# Altium schematic symbol library SparkFun-Connectors.SCHLIB: 462 symbols (part 12 of 13)
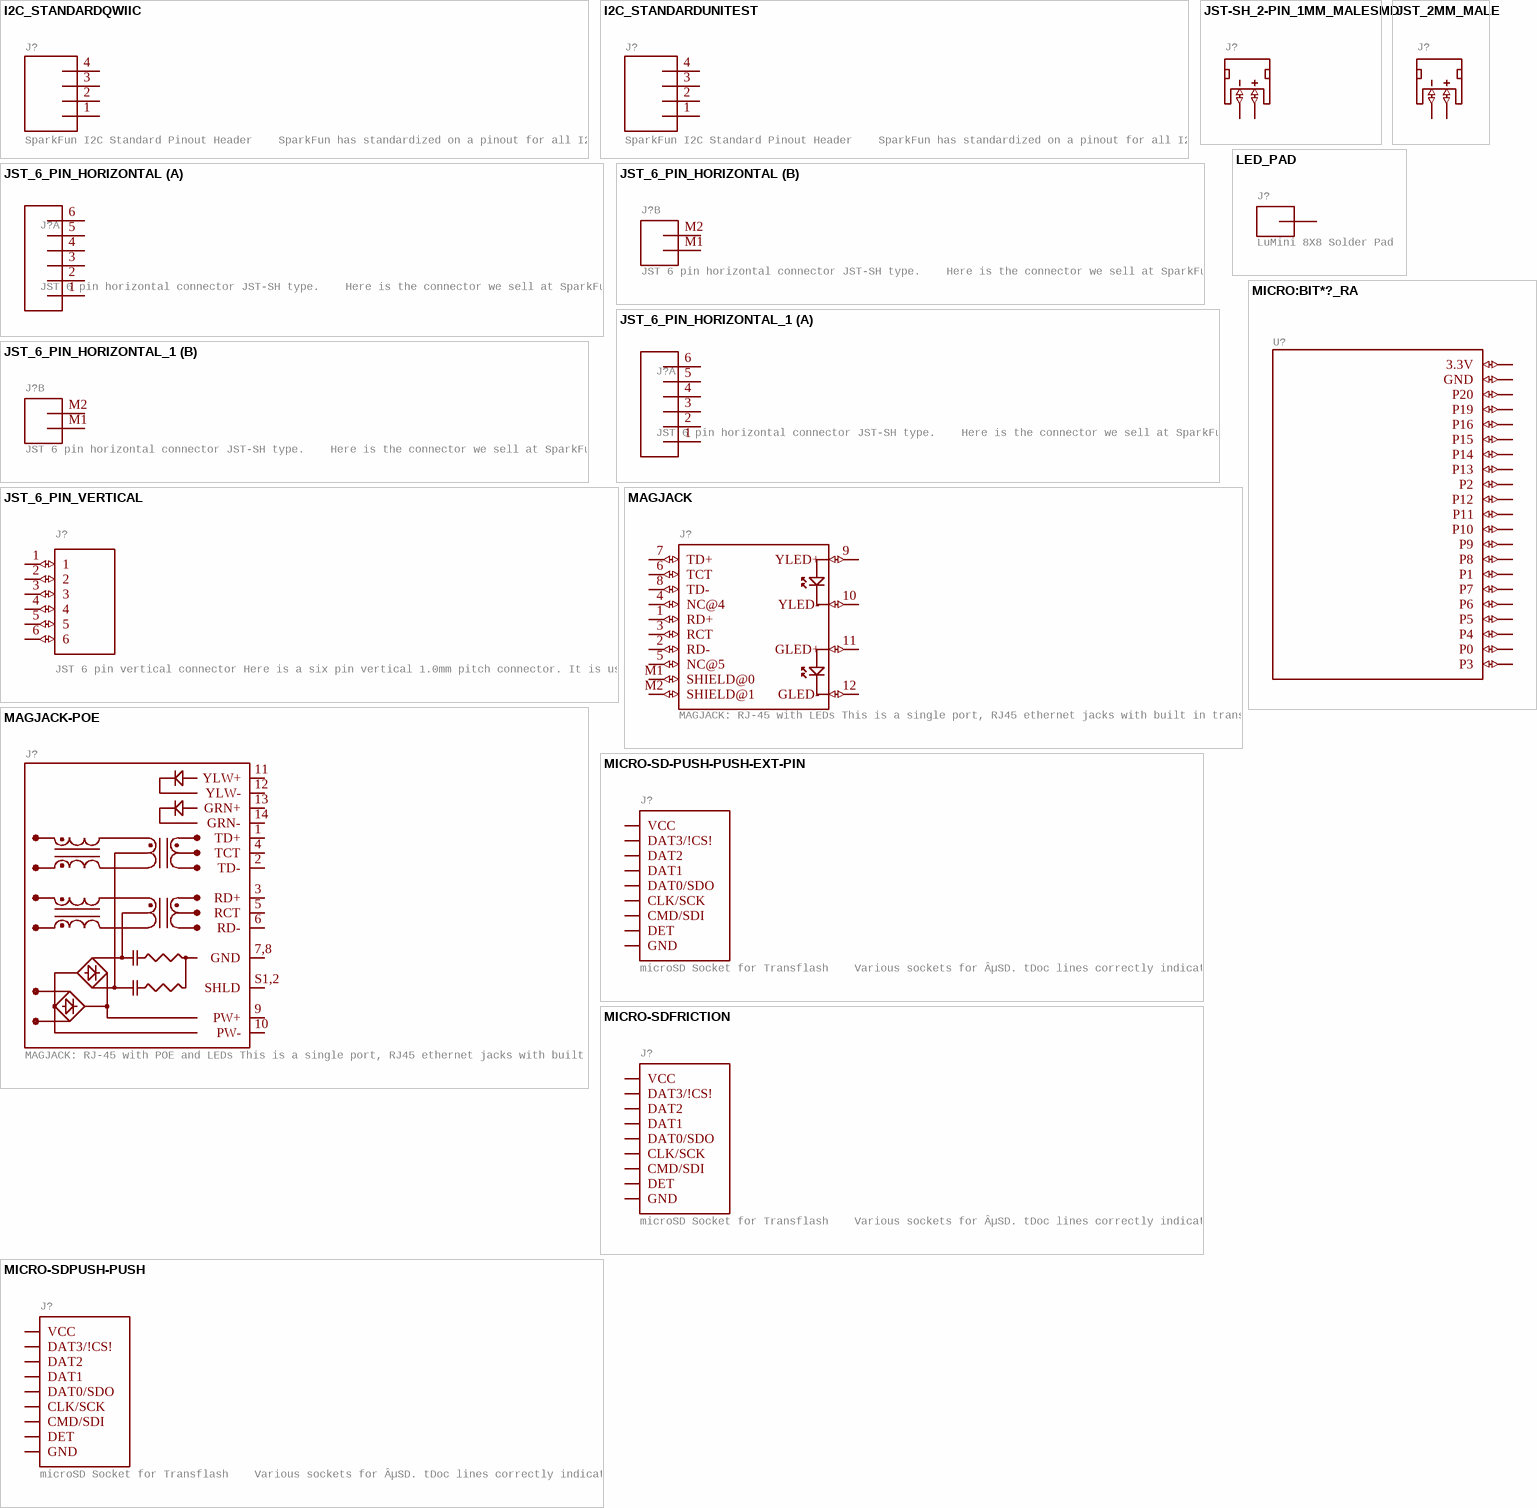
[diagram p33: symbols I2C_STANDARDQWIIC to MICRO:BIT*?_RA]

## MAGJACK
designator J?, comment MAGJACK: RJ-45 with LEDs This is a single port, RJ45 ethernet jacks with built in transformer (magnetics), status LEDs, and shielding.    Here is the connector we sell at SparkFun: RJ45 Ethernet MagJack-Compatible (PRT-08534)  Datasheet      It is used on this SparkFun product: SparkFun RJ45 MagJack Breakout (BOB-13021)
GateName_1: G$1; PROD_ID: CONN-09556; SymbolName_1: MAGJACK; LibraryName: SparkFun-Connectors; DeviceSetName: MAGJACK; Package: MAGJACK; SF_ID: PRT-08534
footprint MAGJACK
pins: 1 RD+ (io), 2 RD- (io), 3 RCT (io), 4 NC@4 (io), 5 NC@5 (io), 6 TCT (io), 7 TD+ (io), 8 TD- (io), 9 YLED+ (io), 10 YLED- (io), 11 GLED+ (io), 12 GLED- (io), M1 SHIELD@0 (io), M2 SHIELD@1 (io)

## MAGJACK-POE
designator J?, comment MAGJACK: RJ-45 with POE and LEDs This is a single port, RJ45 ethernet jacks with built in transformer (magnetics), PoE rectifier diodes, status LEDs, and shielding.
GateName_1: J1; SymbolName_1: MAGJACK_POE_SYMMETRICAL; DeviceSetName: MAGJACK-POE; PROD_ID: CONN-16253; LibraryName: SparkFun-Connectors; Package: MAGJACK-SYM_LED
footprint MAGJACK-SYM_LED
pins: 1 TD+ (io), 2 TD- (io), 3 RD+ (io), 4 TCT (io), 5 RCT (io), 6 RD- (io), 7,8 GND (io), 9 PW+ (io), 10 PW- (io), 11 YLW+ (io), 12 YLW- (io), 13 GRN+ (io), 14 GRN- (io), S1,2 SHLD (io)

## MICRO-SD-PUSH-PUSH-EXT-PIN
designator J?, comment microSD Socket for Transflash    Various sockets for ÂµSD. tDoc lines correctly indicate media card edge positions when inserting (unlocked, locked, depressed).   NOTE: CD1 and CD2 are connected internally, and the default detect state of the socket is detect pin to ground.   SparkFun Products: WAV Trigger  CAN-Bus Shield  SparkFun Level Shifing microSD Breakout
GateName_1: J1; SymbolName_1: MICROSD-SDIO; DeviceName: -PUSH-PUSH-EXT-PIN; DeviceSetName: MICRO-SD; PROD_ID: CONN-16110; LibraryName: SparkFun-Connectors; Package: MICROSD-EXTERNALPIN
footprint MICROSD-EXTERNALPIN
pins: 1 DAT2 (io), 2 DAT3/!CS! (io), 3 CMD/SDI (io), 4 VCC (io), 5 CLK/SCK (io), 6,10,11,12,13 GND (io), 7 DAT0/SDO (io), 8 DAT1 (io), 9 DET (io)

## MICRO-SDFRICTION
designator J?, comment microSD Socket for Transflash    Various sockets for ÂµSD. tDoc lines correctly indicate media card edge positions when inserting (unlocked, locked, depressed).   NOTE: CD1 and CD2 are connected internally, and the default detect state of the socket is detect pin to ground.   SparkFun Products: WAV Trigger  CAN-Bus Shield  SparkFun Level Shifing microSD Breakout
GateName_1: J1; SymbolName_1: MICROSD-SDIO; DeviceName: FRICTION; DeviceSetName: MICRO-SD; PROD_ID: CONN-13500; LibraryName: SparkFun-Connectors; Package: MICROSD_TINY
footprint MICROSD_TINY
pins: 1 DAT2 (io), 2 DAT3/!CS! (io), 3 CMD/SDI (io), 4 VCC (io), 5 CLK/SCK (io), 6,GND1,GND2,GND3,GND4,GND5,GND6 GND (io), 7 DAT0/SDO (io), 8 DAT1 (io), 9 DET (io)

## MICRO-SDPUSH-PUSH
designator J?, comment microSD Socket for Transflash    Various sockets for ÂµSD. tDoc lines correctly indicate media card edge positions when inserting (unlocked, locked, depressed).   NOTE: CD1 and CD2 are connected internally, and the default detect state of the socket is detect pin to ground.   SparkFun Products: WAV Trigger  CAN-Bus Shield  SparkFun Level Shifing microSD Breakout
GateName_1: J1; SymbolName_1: MICROSD-SDIO; DeviceName: PUSH-PUSH; DeviceSetName: MICRO-SD; PROD_ID: CONN-07820; LibraryName: SparkFun-Connectors; Package: MICRO-SD-SOCKET
footprint MICRO-SD-SOCKET
pins: CD1 DET (io), CS/DAT3 DAT3/!CS! (io), DAT1 (io), DAT2 (io), DI/CMD CMD/SDI (io), DO/DAT0 DAT0/SDO (io), GND,GND1,GND3 GND (io), SCLK CLK/SCK (io), VCC (io)

## MICRO:BIT*?_RA
designator U?
GateName_1: G$1; SymbolName_1: MICRO:BIT; DeviceName: _RA; DeviceSetName: MICRO:BIT*?; PROD_ID: CONN-14679; LibraryName: SparkFun-Connectors; Package: MICRO:BIT-RA_SMD
footprint MICRO:BIT-RA_SMD
pins: P$1 P3 (io), P$2-5 P0 (io), P$6 P4 (io), P$7 P5 (io), P$8 P6 (io), P$9 P7 (io), P$10-13 P1 (io), P$14 P8 (io), P$15 P9 (io), P$16 P10 (io), P$17 P11 (io), P$18 P12 (io), P$19-22 P2 (io), P$23 P13 (io), P$24 P14 (io), P$25 P15 (io), P$26 P16 (io), P$27-32 3.3V (io), P$33 P19 (io), P$34 P20 (io), P$35-40 GND (io)

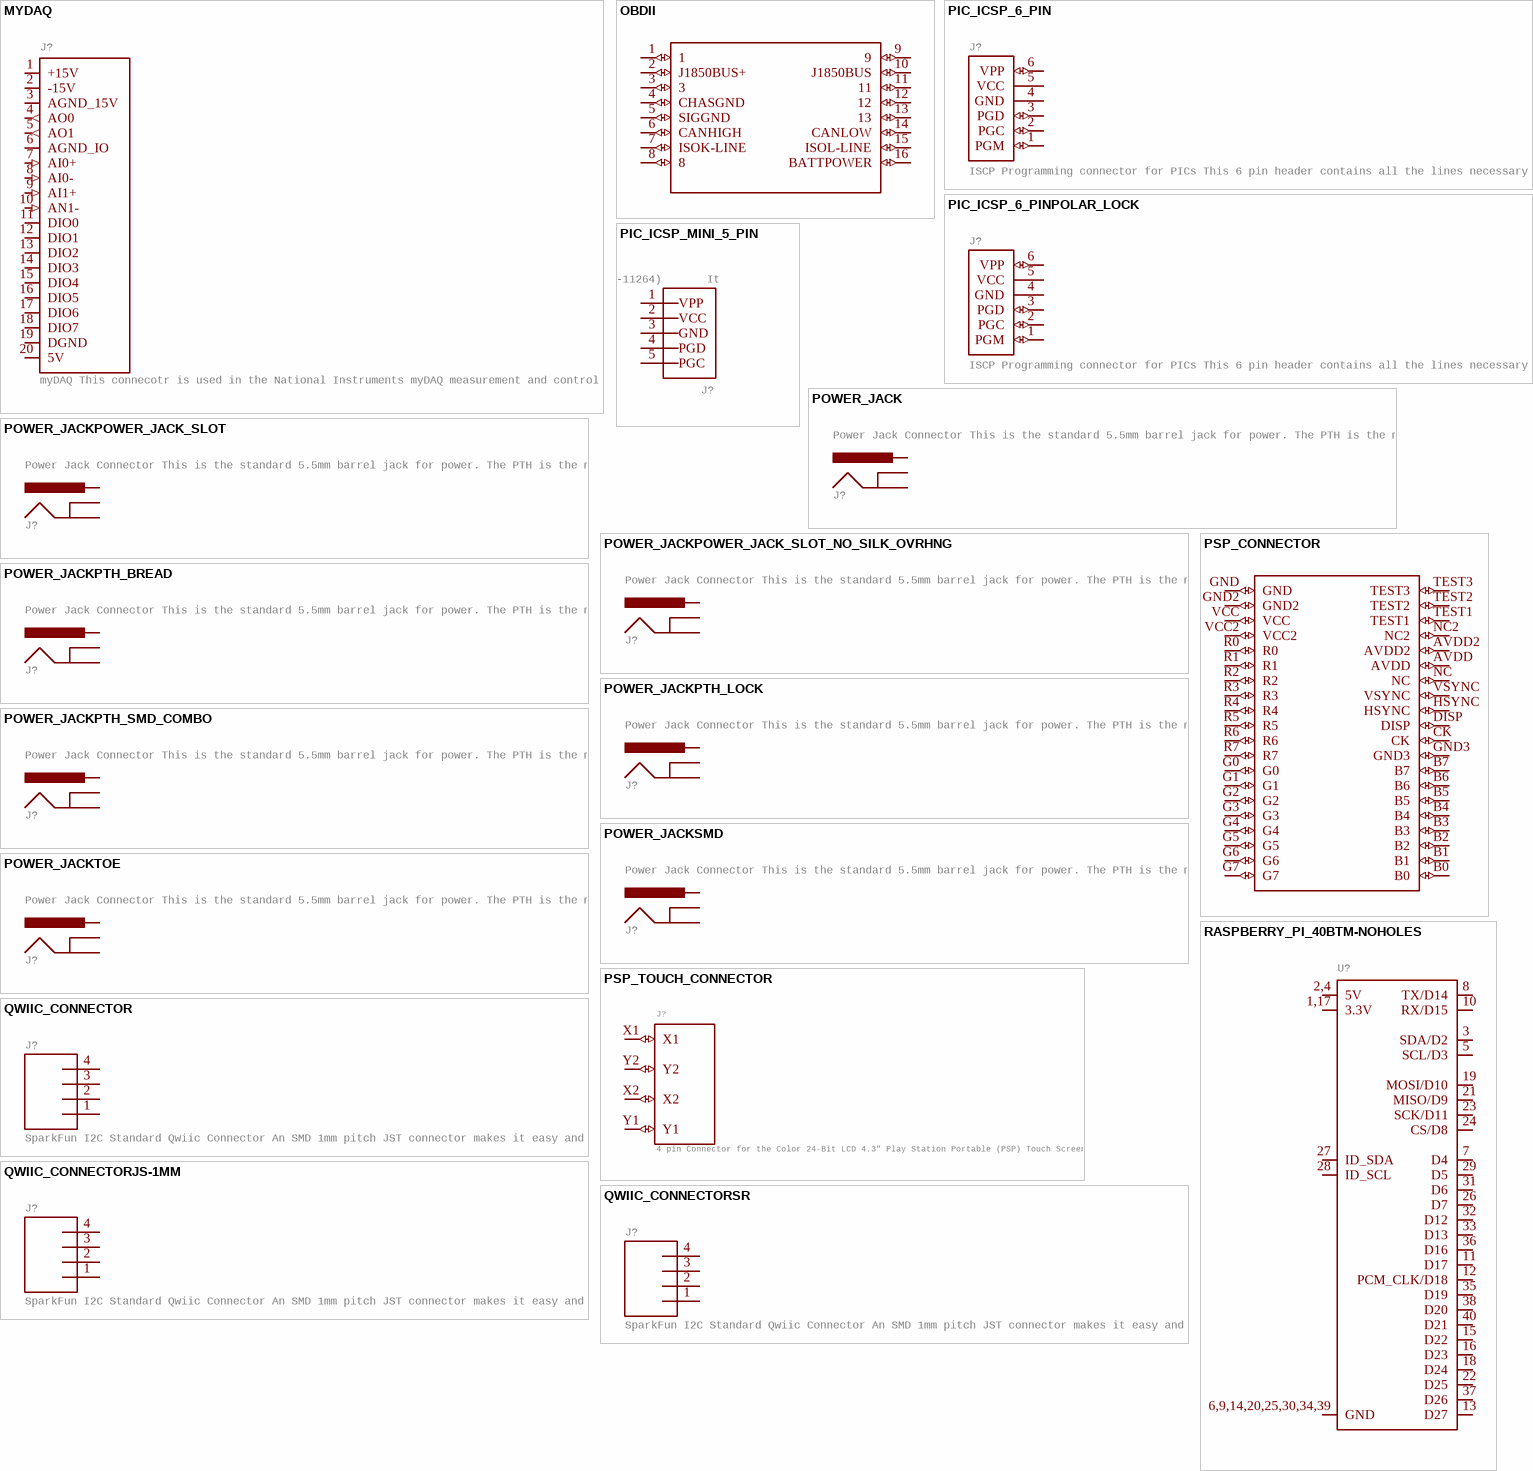
[diagram p17: symbols MYDAQ to RASPBERRY_PI_40BTM-NOHOLES]

## MYDAQ
designator J?, comment myDAQ This connecotr is used in the National Instruments myDAQ measurement and control tool ecosystem. Learn more at the myDAQ website. The connector is a 20pin 3.81mm spaced Female Right Angle Terminal Block (PTH).    Sorry, we do not sell the connector as an individual part at SparkFun, howere here is a link to the datasheet: Datasheet      It is used on this SparkFun product: SparkFun myDAQ Protoboard Kit (DEV-10705)
GateName_1: G$1; SymbolName_1: MYDAQ_CONNECTOR; PROD_ID: CONN-10450; LibraryName: SparkFun-Connectors; DeviceSetName: MYDAQ; Package: 3.81MM_TERMINAL_BLOCK_FEMALE_LOCKING
footprint 3.81MM_TERMINAL_BLOCK_FEMALE_LOCKING
pins: 1 +15V (power), 2 -15V (power), 3 AGND_15V (power), 4 AO0 (out), 5 AO1 (out), 6 AGND_IO (power), 7 AI0+ (in), 8 AI0- (in), 9 AI1+ (in), 10 AN1- (in), 11 DIO0 (io), 12 DIO1 (io), 13 DIO2 (io), 14 DIO3 (io), 15 DIO4 (io), 16 DIO5 (io), 17 DIO6 (io), 18 DIO7 (io), 19 DGND (power), 20 5V (power)

## OBDII
designator J?, comment OBD-II Connector OBDII is an on board diagnostics standard that is used on a large variety of cars.    Here is the connector we sell at SparkFun: OBD-II connector (DEV-09911)  Info and Pinout (sorry, no datasheet)       We do not use this connector on any active designs, however, if you're looking for OBDII tech, please check out these: SparkFun OBD related products  (value not drawn)
GateName_1: G$1; SymbolName_1: OBDII; LibraryName: SparkFun-Connectors; DeviceSetName: OBDII; Package: OBDII; SF_ID: DEV-09911
footprint OBDII
pins: 1 (io), 2 J1850BUS+ (io), 3 (io), 4 CHASGND (io), 5 SIGGND (io), 6 CANHIGH (io), 7 ISOK-LINE (io), 8 (io), 9 (io), 10 J1850BUS (io), 11 (io), 12 (io), 13 (io), 14 CANLOW (io), 15 ISOL-LINE (io), 16 BATTPOWER (io)

## PIC_ICSP_6_PIN
designator J?, comment ISCP Programming connector for PICs This 6 pin header contains all the lines necessary for programming most PIC microcontrollers.    Here is the connector we sell at SparkFun: Polarized Connectors - Header (6-Pin) (PRT-08094)       It is used on this SparkFun product: SparkFun UDB5 - PIC UAV Development Board (DEV-11703)       Also, if you need a nice PIC programmer, please check these out: MPLAB PICkit 3 (PGM-09973)
GateName_1: G$1; SymbolName_1: ICSP-PIC; DeviceSetName: PIC_ICSP_6_PIN; PROD_ID: CONN-08046; LibraryName: SparkFun-Connectors; Package: MOLEX-1X6; SF_ID: PRT-08094
footprint MOLEX-1X6
pins: 1 PGM (io), 2 PGC (io), 3 PGD (io), 4 GND (power), 5 VCC (power), 6 VPP (io)

## PIC_ICSP_6_PINPOLAR_LOCK
designator J?, comment ISCP Programming connector for PICs This 6 pin header contains all the lines necessary for programming most PIC microcontrollers.    Here is the connector we sell at SparkFun: Polarized Connectors - Header (6-Pin) (PRT-08094)       It is used on this SparkFun product: SparkFun UDB5 - PIC UAV Development Board (DEV-11703)       Also, if you need a nice PIC programmer, please check these out: MPLAB PICkit 3 (PGM-09973)
GateName_1: G$1; SymbolName_1: ICSP-PIC; DeviceName: POLAR_LOCK; DeviceSetName: PIC_ICSP_6_PIN; LibraryName: SparkFun-Connectors; Package: MOLEX-1X6_LOCK
footprint MOLEX-1X6_LOCK
pins: 1 PGM (io), 2 PGC (io), 3 PGD (io), 4 GND (power), 5 VCC (power), 6 VPP (io)

## PIC_ICSP_MINI_5_PIN
designator J?, comment PIC-ICSP-MiniMiniature 5-pin connection for temporary programming of PICs. Use this device in your design to save space.  Miniature ISCP Programming connector for PICs This 5 pin header contains all the lines necessary for programming most PIC microcontrollers. Use this device in your design to save space.    Here is the connector we sell at SparkFun: 5-Pin Mini ICSP Connector (PRT-11264)       It is used on these SparkFun products: USB Bit Whacker - 18F2553 Development Board (DEV-00762)  SparkFun Serial Enabled LCD Backpack (LCD-00258)       Also, if you need a nice PIC programmer, please check these out: MPLAB PICkit 3 (PGM-09973)
GateName_1: G$1; SymbolName_1: PIC-ISCP-MINI; DeviceSetName: PIC_ICSP_MINI_5_PIN; PROD_ID: CONN-08314; LibraryName: SparkFun-Connectors; Package: PIC_ICSP_MINI_5_PIN; SF_ID: PRT-11264
footprint PIC_ICSP_MINI_5_PIN
pins: 1 VPP, 2 VCC, 3 GND, 4 PGD, 5 PGC

## POWER_JACK
designator J?, comment Power Jack Connector This is the standard 5.5mm barrel jack for power. The PTH is the most common, proven, reliable, footprint. The Slot footprint only works if the mill layer is transmitted to the PCB fab house so be warned.    Here are the connectors we sell at SparkFun: DC Barrel Power Jack/Connector (PRT-00119)  DC Barrel Power Jack/Connector (SMD) (PRT-12748)  DC Barrel Jack Adapter - Breadboard Compatible (PRT-10811)       It is used on this SparkFun product (and many, many others): SparkFun RedBoard - Programmed with Arduino (DEV-12757)       Also, if you need a mating power supply or connector, please check these out: Wall Adapter Power Supply - 9VDC 650mA (TOL-00298)  DC Barrel Jack Adapter - Male (PRT-10287)
GateName_1: G$1; DeviceSetName: POWER_JACK; PROD_ID: CONN-08197; SymbolName_1: POWERJACK; LibraryName: SparkFun-Connectors; Package: POWER_JACK_PTH
footprint POWER_JACK_PTH
pins: GND (io), GNDBREAK (io), PWR (io)

## POWER_JACKPOWER_JACK_SLOT
designator J?, comment Power Jack Connector This is the standard 5.5mm barrel jack for power. The PTH is the most common, proven, reliable, footprint. The Slot footprint only works if the mill layer is transmitted to the PCB fab house so be warned.    Here are the connectors we sell at SparkFun: DC Barrel Power Jack/Connector (PRT-00119)  DC Barrel Power Jack/Connector (SMD) (PRT-12748)  DC Barrel Jack Adapter - Breadboard Compatible (PRT-10811)       It is used on this SparkFun product (and many, many others): SparkFun RedBoard - Programmed with Arduino (DEV-12757)       Also, if you need a mating power supply or connector, please check these out: Wall Adapter Power Supply - 9VDC 650mA (TOL-00298)  DC Barrel Jack Adapter - Male (PRT-10287)
GateName_1: G$1; DeviceName: POWER_JACK_SLOT; DeviceSetName: POWER_JACK; PROD_ID: CONN-08197; SymbolName_1: POWERJACK; LibraryName: SparkFun-Connectors; Package: POWER_JACK_PTH_SLOT
footprint POWER_JACK_PTH_SLOT
pins: GND (io), GNDBREAK (io), PWR (io)

## POWER_JACKPOWER_JACK_SLOT_NO_SILK_OVRHNG
designator J?, comment Power Jack Connector This is the standard 5.5mm barrel jack for power. The PTH is the most common, proven, reliable, footprint. The Slot footprint only works if the mill layer is transmitted to the PCB fab house so be warned.    Here are the connectors we sell at SparkFun: DC Barrel Power Jack/Connector (PRT-00119)  DC Barrel Power Jack/Connector (SMD) (PRT-12748)  DC Barrel Jack Adapter - Breadboard Compatible (PRT-10811)       It is used on this SparkFun product (and many, many others): SparkFun RedBoard - Programmed with Arduino (DEV-12757)       Also, if you need a mating power supply or connector, please check these out: Wall Adapter Power Supply - 9VDC 650mA (TOL-00298)  DC Barrel Jack Adapter - Male (PRT-10287)
GateName_1: G$1; DeviceName: POWER_JACK_SLOT_NO_SILK_OVRHNG; DeviceSetName: POWER_JACK; SymbolName_1: POWERJACK; LibraryName: SparkFun-Connectors; Package: POWER_JACK_PTH_SLOT_NO_OVRHNG_SILK
footprint POWER_JACK_PTH_SLOT_NO_OVRHNG_SILK
pins: GND (io), GNDBREAK (io), PWR (io)

## POWER_JACKPTH_BREAD
designator J?, comment Power Jack Connector This is the standard 5.5mm barrel jack for power. The PTH is the most common, proven, reliable, footprint. The Slot footprint only works if the mill layer is transmitted to the PCB fab house so be warned.    Here are the connectors we sell at SparkFun: DC Barrel Power Jack/Connector (PRT-00119)  DC Barrel Power Jack/Connector (SMD) (PRT-12748)  DC Barrel Jack Adapter - Breadboard Compatible (PRT-10811)       It is used on this SparkFun product (and many, many others): SparkFun RedBoard - Programmed with Arduino (DEV-12757)       Also, if you need a mating power supply or connector, please check these out: Wall Adapter Power Supply - 9VDC 650mA (TOL-00298)  DC Barrel Jack Adapter - Male (PRT-10287)
GateName_1: G$1; DeviceName: PTH_BREAD; DeviceSetName: POWER_JACK; PROD_ID: COMP-13253; SymbolName_1: POWERJACK; LibraryName: SparkFun-Connectors; Package: POWER_JACK_PTH_BREAD
footprint POWER_JACK_PTH_BREAD
pins: GND (io), GNDBREAK (io), PWR (io)

## POWER_JACKPTH_LOCK
designator J?, comment Power Jack Connector This is the standard 5.5mm barrel jack for power. The PTH is the most common, proven, reliable, footprint. The Slot footprint only works if the mill layer is transmitted to the PCB fab house so be warned.    Here are the connectors we sell at SparkFun: DC Barrel Power Jack/Connector (PRT-00119)  DC Barrel Power Jack/Connector (SMD) (PRT-12748)  DC Barrel Jack Adapter - Breadboard Compatible (PRT-10811)       It is used on this SparkFun product (and many, many others): SparkFun RedBoard - Programmed with Arduino (DEV-12757)       Also, if you need a mating power supply or connector, please check these out: Wall Adapter Power Supply - 9VDC 650mA (TOL-00298)  DC Barrel Jack Adapter - Male (PRT-10287)
GateName_1: G$1; DeviceName: PTH_LOCK; DeviceSetName: POWER_JACK; PROD_ID: CONN-08197; SymbolName_1: POWERJACK; LibraryName: SparkFun-Connectors; Package: POWER_JACK_PTH_LOCK; SF_ID: PRT-00119
footprint POWER_JACK_PTH_LOCK
pins: GND (io), GNDBREAK (io), PWR (io)

## POWER_JACKPTH_SMD_COMBO
designator J?, comment Power Jack Connector This is the standard 5.5mm barrel jack for power. The PTH is the most common, proven, reliable, footprint. The Slot footprint only works if the mill layer is transmitted to the PCB fab house so be warned.    Here are the connectors we sell at SparkFun: DC Barrel Power Jack/Connector (PRT-00119)  DC Barrel Power Jack/Connector (SMD) (PRT-12748)  DC Barrel Jack Adapter - Breadboard Compatible (PRT-10811)       It is used on this SparkFun product (and many, many others): SparkFun RedBoard - Programmed with Arduino (DEV-12757)       Also, if you need a mating power supply or connector, please check these out: Wall Adapter Power Supply - 9VDC 650mA (TOL-00298)  DC Barrel Jack Adapter - Male (PRT-10287)
GateName_1: G$1; DeviceName: PTH_SMD_COMBO; DeviceSetName: POWER_JACK; SymbolName_1: POWERJACK; LibraryName: SparkFun-Connectors; Package: POWER_JACK_COMBO
footprint POWER_JACK_COMBO
pins: GND GNDBREAK (io), GND@1 GND (io), POWER PWR (io)

## POWER_JACKSMD
designator J?, comment Power Jack Connector This is the standard 5.5mm barrel jack for power. The PTH is the most common, proven, reliable, footprint. The Slot footprint only works if the mill layer is transmitted to the PCB fab house so be warned.    Here are the connectors we sell at SparkFun: DC Barrel Power Jack/Connector (PRT-00119)  DC Barrel Power Jack/Connector (SMD) (PRT-12748)  DC Barrel Jack Adapter - Breadboard Compatible (PRT-10811)       It is used on this SparkFun product (and many, many others): SparkFun RedBoard - Programmed with Arduino (DEV-12757)       Also, if you need a mating power supply or connector, please check these out: Wall Adapter Power Supply - 9VDC 650mA (TOL-00298)  DC Barrel Jack Adapter - Male (PRT-10287)
GateName_1: G$1; DeviceSetName: POWER_JACK; PROD_ID: CONN-08106; SymbolName_1: POWERJACK; DeviceName: SMD; LibraryName: SparkFun-Connectors; Package: POWER_JACK_SMD; SF_ID: PRT-12748
footprint POWER_JACK_SMD
pins: GND GNDBREAK (io), P$4 GND (io), VIN0 PWR (io)

## POWER_JACKTOE
designator J?, comment Power Jack Connector This is the standard 5.5mm barrel jack for power. The PTH is the most common, proven, reliable, footprint. The Slot footprint only works if the mill layer is transmitted to the PCB fab house so be warned.    Here are the connectors we sell at SparkFun: DC Barrel Power Jack/Connector (PRT-00119)  DC Barrel Power Jack/Connector (SMD) (PRT-12748)  DC Barrel Jack Adapter - Breadboard Compatible (PRT-10811)       It is used on this SparkFun product (and many, many others): SparkFun RedBoard - Programmed with Arduino (DEV-12757)       Also, if you need a mating power supply or connector, please check these out: Wall Adapter Power Supply - 9VDC 650mA (TOL-00298)  DC Barrel Jack Adapter - Male (PRT-10287)
GateName_1: G$1; DeviceName: TOE; DeviceSetName: POWER_JACK; PROD_ID: CONN-08106; SymbolName_1: POWERJACK; LibraryName: SparkFun-Connectors; Package: POWER_JACK_SMD_OVERPASTE_TOE; SF_ID: PRT-12748
footprint POWER_JACK_SMD_OVERPASTE_TOE
pins: GND GNDBREAK (io), P$4 GND (io), VIN0 PWR (io)

## PSP_CONNECTOR
designator J?, comment Connector for the PlayStation Portable (PSP) screen ribbon cable We no longer sell the screens, however we do still sell the connector.    Here is the connector we sell at SparkFun: Color 24-Bit LCD 4.3" PSP Connector (LCD-08355)  Datasheet  (value not drawn)
GateName_1: G$1; SymbolName_1: PSP_CONNECTOR; LibraryName: SparkFun-Connectors; DeviceSetName: PSP_CONNECTOR; Package: PSP_CONNECTOR; SF_ID: LCD-08355
footprint PSP_CONNECTOR
pins: AVDD (io), AVDD2 (io), B0 (io), B1 (io), B2 (io), B3 (io), B4 (io), B5 (io), B6 (io), B7 (io), CK (io), DISP (io), G0 (io), G1 (io), G2 (io), G3 (io), G4 (io), G5 (io), G6 (io), G7 (io), GND (io), GND2 (io), GND3 (io), HSYNC (io), NC (io), NC2 (io), R0 (io), R1 (io), R2 (io), R3 (io), R4 (io), R5 (io), R6 (io), R7 (io), TEST1 (io), TEST2 (io), TEST3 (io), VCC (io), VCC2 (io), VSYNC (io)

## PSP_TOUCH_CONNECTOR
designator J?, comment 4 pin Connector for the Color 24-Bit LCD 4.3" Play Station Portable (PSP) Touch Screen We no longer sell the screens, however we do still sell the connector.    Here is the connector we sell at SparkFun: Color 24-Bit LCD 4.3" PSP Touch Screen Connector (LCD-09104)  Datasheet
GateName_1: G$1; SymbolName_1: PSP_TOUCH_CONNECTOR; PROD_ID: CONN-09139; LibraryName: SparkFun-Connectors; DeviceSetName: PSP_TOUCH_CONNECTOR; Package: PSP_TOUCH_CONNECTOR; SF_ID: LCD-09104
footprint PSP_TOUCH_CONNECTOR
pins: X1 (io), X2 (io), Y1 (io), Y2 (io)

## QWIIC_CONNECTOR
designator J?, comment SparkFun I2C Standard Qwiic Connector An SMD 1mm pitch JST connector makes it easy and quick (get it? Qwiic?) to connect I2C devices to each other. The Qwiic system enables fast and solderless connection between popular platforms and various sensors and actuators.   We carry 200mm, 100mm, 50mm, and breadboard friendly Qwiic cables. We also offer 10 pcs strips the SMD connectors.
GateName_1: J1; SymbolName_1: I2C_STANDARD; DeviceSetName: QWIIC_CONNECTOR; PROD_ID: CONN-14483; LibraryName: SparkFun-Connectors; Package: JST04_1MM_VERT
footprint JST04_1MM_VERT
pins: 1 (power), 2 (power), 3, 4

## QWIIC_CONNECTORJS-1MM
designator J?, comment SparkFun I2C Standard Qwiic Connector An SMD 1mm pitch JST connector makes it easy and quick (get it? Qwiic?) to connect I2C devices to each other. The Qwiic system enables fast and solderless connection between popular platforms and various sensors and actuators.   We carry 200mm, 100mm, 50mm, and breadboard friendly Qwiic cables. We also offer 10 pcs strips the SMD connectors.
GateName_1: J1; SymbolName_1: I2C_STANDARD; DeviceName: JS-1MM; DeviceSetName: QWIIC_CONNECTOR; PROD_ID: CONN-13694; LibraryName: SparkFun-Connectors; Package: JST04_1MM_RA
footprint JST04_1MM_RA
pins: 1 (power), 2 (power), 3, 4

## QWIIC_CONNECTORSR
designator J?, comment SparkFun I2C Standard Qwiic Connector An SMD 1mm pitch JST connector makes it easy and quick (get it? Qwiic?) to connect I2C devices to each other. The Qwiic system enables fast and solderless connection between popular platforms and various sensors and actuators.   We carry 200mm, 100mm, 50mm, and breadboard friendly Qwiic cables. We also offer 10 pcs strips the SMD connectors.
GateName_1: J1; SymbolName_1: I2C_STANDARD; DeviceName: SR; DeviceSetName: QWIIC_CONNECTOR; LibraryName: SparkFun-Connectors; Package: JST04_1MM_RA_STRESSRELIEF
footprint JST04_1MM_RA_STRESSRELIEF
pins: 1 (power), 2 (power), 3, 4

## RASPBERRY_PI_40BTM-NOHOLES
designator U?
GateName_1: U1; SymbolName_1: RASPBERRY_PI_HEADER-40-GROUPED; DeviceName: BTM-NOHOLES; DeviceSetName: RASPBERRY_PI_40; PROD_ID: CONN-13790; LibraryName: SparkFun-Connectors; Package: RASPBERRY_PI_SHIELD_BOTTOM_ENTRY_NOHOLES
footprint RASPBERRY_PI_SHIELD_BOTTOM_ENTRY_NOHOLES
pins: 1,17 3.3V (io), 2,4 5V (io), 3 SDA/D2 (io), 5 SCL/D3 (io), 6,9,14,20,25,30,34,39 GND (io), 7 D4 (io), 8 TX/D14 (io), 10 RX/D15 (io), 11 D17 (io), 12 PCM_CLK/D18 (io), 13 D27 (io), 15 D22 (io), 16 D23 (io), 18 D24 (io), 19 MOSI/D10 (io), 21 MISO/D9 (io), 22 D25 (io), 23 SCK/D11 (io), 24 CS/D8 (io), 26 D7 (io), 27 ID_SDA (io), 28 ID_SCL (io), 29 D5 (io), 31 D6 (io), 32 D12 (io), 33 D13 (io), 35 D19 (io), 36 D16 (io), 37 D26 (io), 38 D20 (io), 40 D21 (io)

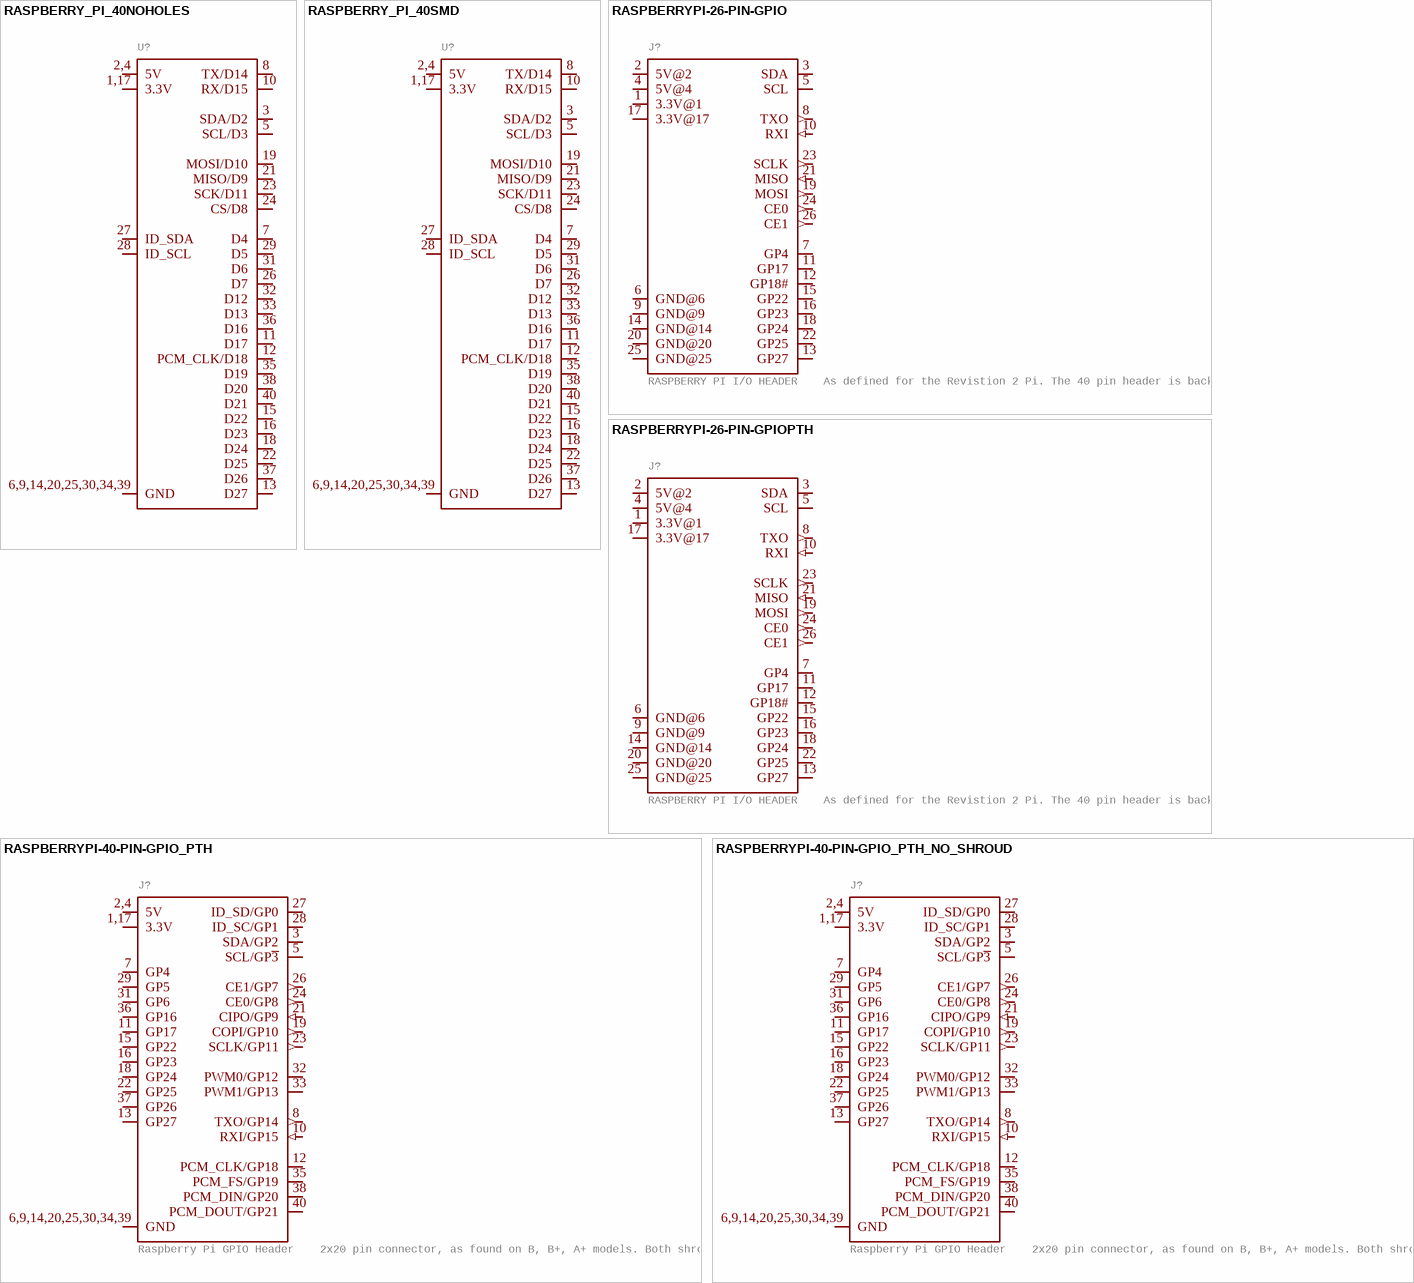
[diagram p18: symbols RASPBERRY_PI_40NOHOLES to RASPBERRYPI-40-PIN-GPIO_PTH_NO_SHROUD]

## RASPBERRY_PI_40NOHOLES
designator U?
GateName_1: U1; SymbolName_1: RASPBERRY_PI_HEADER-40-GROUPED; DeviceName: NOHOLES; DeviceSetName: RASPBERRY_PI_40; LibraryName: SparkFun-Connectors; Package: RASPBERRY_PI_SHIELD_NOHOLES
footprint RASPBERRY_PI_SHIELD_NOHOLES
pins: 1,17 3.3V (io), 2,4 5V (io), 3 SDA/D2 (io), 5 SCL/D3 (io), 6,9,14,20,25,30,34,39 GND (io), 7 D4 (io), 8 TX/D14 (io), 10 RX/D15 (io), 11 D17 (io), 12 PCM_CLK/D18 (io), 13 D27 (io), 15 D22 (io), 16 D23 (io), 18 D24 (io), 19 MOSI/D10 (io), 21 MISO/D9 (io), 22 D25 (io), 23 SCK/D11 (io), 24 CS/D8 (io), 26 D7 (io), 27 ID_SDA (io), 28 ID_SCL (io), 29 D5 (io), 31 D6 (io), 32 D12 (io), 33 D13 (io), 35 D19 (io), 36 D16 (io), 37 D26 (io), 38 D20 (io), 40 D21 (io)

## RASPBERRY_PI_40SMD
designator U?
GateName_1: U1; SymbolName_1: RASPBERRY_PI_HEADER-40-GROUPED; DeviceName: SMD; DeviceSetName: RASPBERRY_PI_40; LibraryName: SparkFun-Connectors; Package: RASPBERRY_PI_SHIELD_HOLES
footprint RASPBERRY_PI_SHIELD_HOLES
pins: 1,17 3.3V (io), 2,4 5V (io), 3 SDA/D2 (io), 5 SCL/D3 (io), 6,9,14,20,25,30,34,39 GND (io), 7 D4 (io), 8 TX/D14 (io), 10 RX/D15 (io), 11 D17 (io), 12 PCM_CLK/D18 (io), 13 D27 (io), 15 D22 (io), 16 D23 (io), 18 D24 (io), 19 MOSI/D10 (io), 21 MISO/D9 (io), 22 D25 (io), 23 SCK/D11 (io), 24 CS/D8 (io), 26 D7 (io), 27 ID_SDA (io), 28 ID_SCL (io), 29 D5 (io), 31 D6 (io), 32 D12 (io), 33 D13 (io), 35 D19 (io), 36 D16 (io), 37 D26 (io), 38 D20 (io), 40 D21 (io)

## RASPBERRYPI-26-PIN-GPIO
designator J?, comment RASPBERRY PI I/O HEADER    As defined for the Revistion 2 Pi. The 40 pin header is backwards compatible with this smaller more compact footprint.
GateName_1: JP1; SymbolName_1: RASPBERRYPI-26-PIN-GPIO; LibraryName: SparkFun-Connectors; DeviceSetName: RASPBERRYPI-26-PIN-GPIO; Package: 2X13
footprint 2X13
pins: 1 3.3V@1 (power), 2 5V@2 (power), 3 SDA (io), 4 5V@4 (power), 5 SCL (io), 6 GND@6 (power), 7 GP4 (io), 8 TXO (out), 9 GND@9 (power), 10 RXI (in), 11 GP17 (io), 12 GP18# (io), 13 GP27 (io), 14 GND@14 (power), 15 GP22 (io), 16 GP23 (io), 17 3.3V@17 (power), 18 GP24 (io), 19 MOSI (out), 20 GND@20 (power), 21 MISO (in), 22 GP25 (io), 23 SCLK (out), 24 CE0 (out), 25 GND@25 (power), 26 CE1 (out)

## RASPBERRYPI-26-PIN-GPIOPTH
designator J?, comment RASPBERRY PI I/O HEADER    As defined for the Revistion 2 Pi. The 40 pin header is backwards compatible with this smaller more compact footprint.
GateName_1: JP1; SymbolName_1: RASPBERRYPI-26-PIN-GPIO; DeviceName: PTH; DIST: sparkfun; DIST_ID: PRT-11490; LibraryName: SparkFun-Connectors; DeviceSetName: RASPBERRYPI-26-PIN-GPIO; Package: 2X13-SHROUDED
footprint 2X13-SHROUDED
pins: 1 3.3V@1 (power), 2 5V@2 (power), 3 SDA (io), 4 5V@4 (power), 5 SCL (io), 6 GND@6 (power), 7 GP4 (io), 8 TXO (out), 9 GND@9 (power), 10 RXI (in), 11 GP17 (io), 12 GP18# (io), 13 GP27 (io), 14 GND@14 (power), 15 GP22 (io), 16 GP23 (io), 17 3.3V@17 (power), 18 GP24 (io), 19 MOSI (out), 20 GND@20 (power), 21 MISO (in), 22 GP25 (io), 23 SCLK (out), 24 CE0 (out), 25 GND@25 (power), 26 CE1 (out)

## RASPBERRYPI-40-PIN-GPIO_PTH
designator J?, comment Raspberry Pi GPIO Header    2x20 pin connector, as found on B, B+, A+ models. Both shrouded PTH and SMT versions available.   SparkFun Products: GPIO Shrouded Header- PTH  SparkFun Pi Wedge (Preassembled)
GateName_1: G$1; SymbolName_1: RASPBERRYPI_40_PIN_GPIO; DeviceName: _PTH; DeviceSetName: RASPBERRYPI-40-PIN-GPIO; PROD_ID: CONN-12263; SF_ID: PRT-13054; LibraryName: SparkFun-Connectors; Package: 2X20_SHROUDED
footprint 2X20_SHROUDED
pins: 1,17 3.3V (power), 2,4 5V (power), 3 SDA/GP2 (io), 5 SCL/GP~{3} (io), 6,9,14,20,25,30,34,39 GND (power), 7 GP4 (io), 8 TXO/GP14 (out), 10 RXI/GP15 (in), 11 GP17 (io), 12 PCM_CLK/GP18 (io), 13 GP27 (io), 15 GP22 (io), 16 GP23 (io), 18 GP24 (io), 19 COPI/GP10 (out), 21 CIPO/GP9 (in), 22 GP25 (io), 23 SCLK/GP11 (out), 24 CE0/GP8 (out), 26 CE1/GP7 (out), 27 ID_SD/GP0 (io), 28 ID_SC/GP1 (io), 29 GP5 (io), 31 GP6 (io), 32 PWM0/GP12 (io), 33 PWM1/GP13 (io), 35 PCM_FS/GP19 (io), 36 GP16 (io), 37 GP26 (io), 38 PCM_DIN/GP20 (io), 40 PCM_DOUT/GP21 (io)

## RASPBERRYPI-40-PIN-GPIO_PTH_NO_SHROUD
designator J?, comment Raspberry Pi GPIO Header    2x20 pin connector, as found on B, B+, A+ models. Both shrouded PTH and SMT versions available.   SparkFun Products: GPIO Shrouded Header- PTH  SparkFun Pi Wedge (Preassembled)
GateName_1: G$1; SymbolName_1: RASPBERRYPI_40_PIN_GPIO; DeviceName: _PTH_NO_SHROUD; DeviceSetName: RASPBERRYPI-40-PIN-GPIO; LibraryName: SparkFun-Connectors; Package: 2X20
footprint 2X20
pins: 1,17 3.3V (power), 2,4 5V (power), 3 SDA/GP2 (io), 5 SCL/GP~{3} (io), 6,9,14,20,25,30,34,39 GND (power), 7 GP4 (io), 8 TXO/GP14 (out), 10 RXI/GP15 (in), 11 GP17 (io), 12 PCM_CLK/GP18 (io), 13 GP27 (io), 15 GP22 (io), 16 GP23 (io), 18 GP24 (io), 19 COPI/GP10 (out), 21 CIPO/GP9 (in), 22 GP25 (io), 23 SCLK/GP11 (out), 24 CE0/GP8 (out), 26 CE1/GP7 (out), 27 ID_SD/GP0 (io), 28 ID_SC/GP1 (io), 29 GP5 (io), 31 GP6 (io), 32 PWM0/GP12 (io), 33 PWM1/GP13 (io), 35 PCM_FS/GP19 (io), 36 GP16 (io), 37 GP26 (io), 38 PCM_DIN/GP20 (io), 40 PCM_DOUT/GP21 (io)

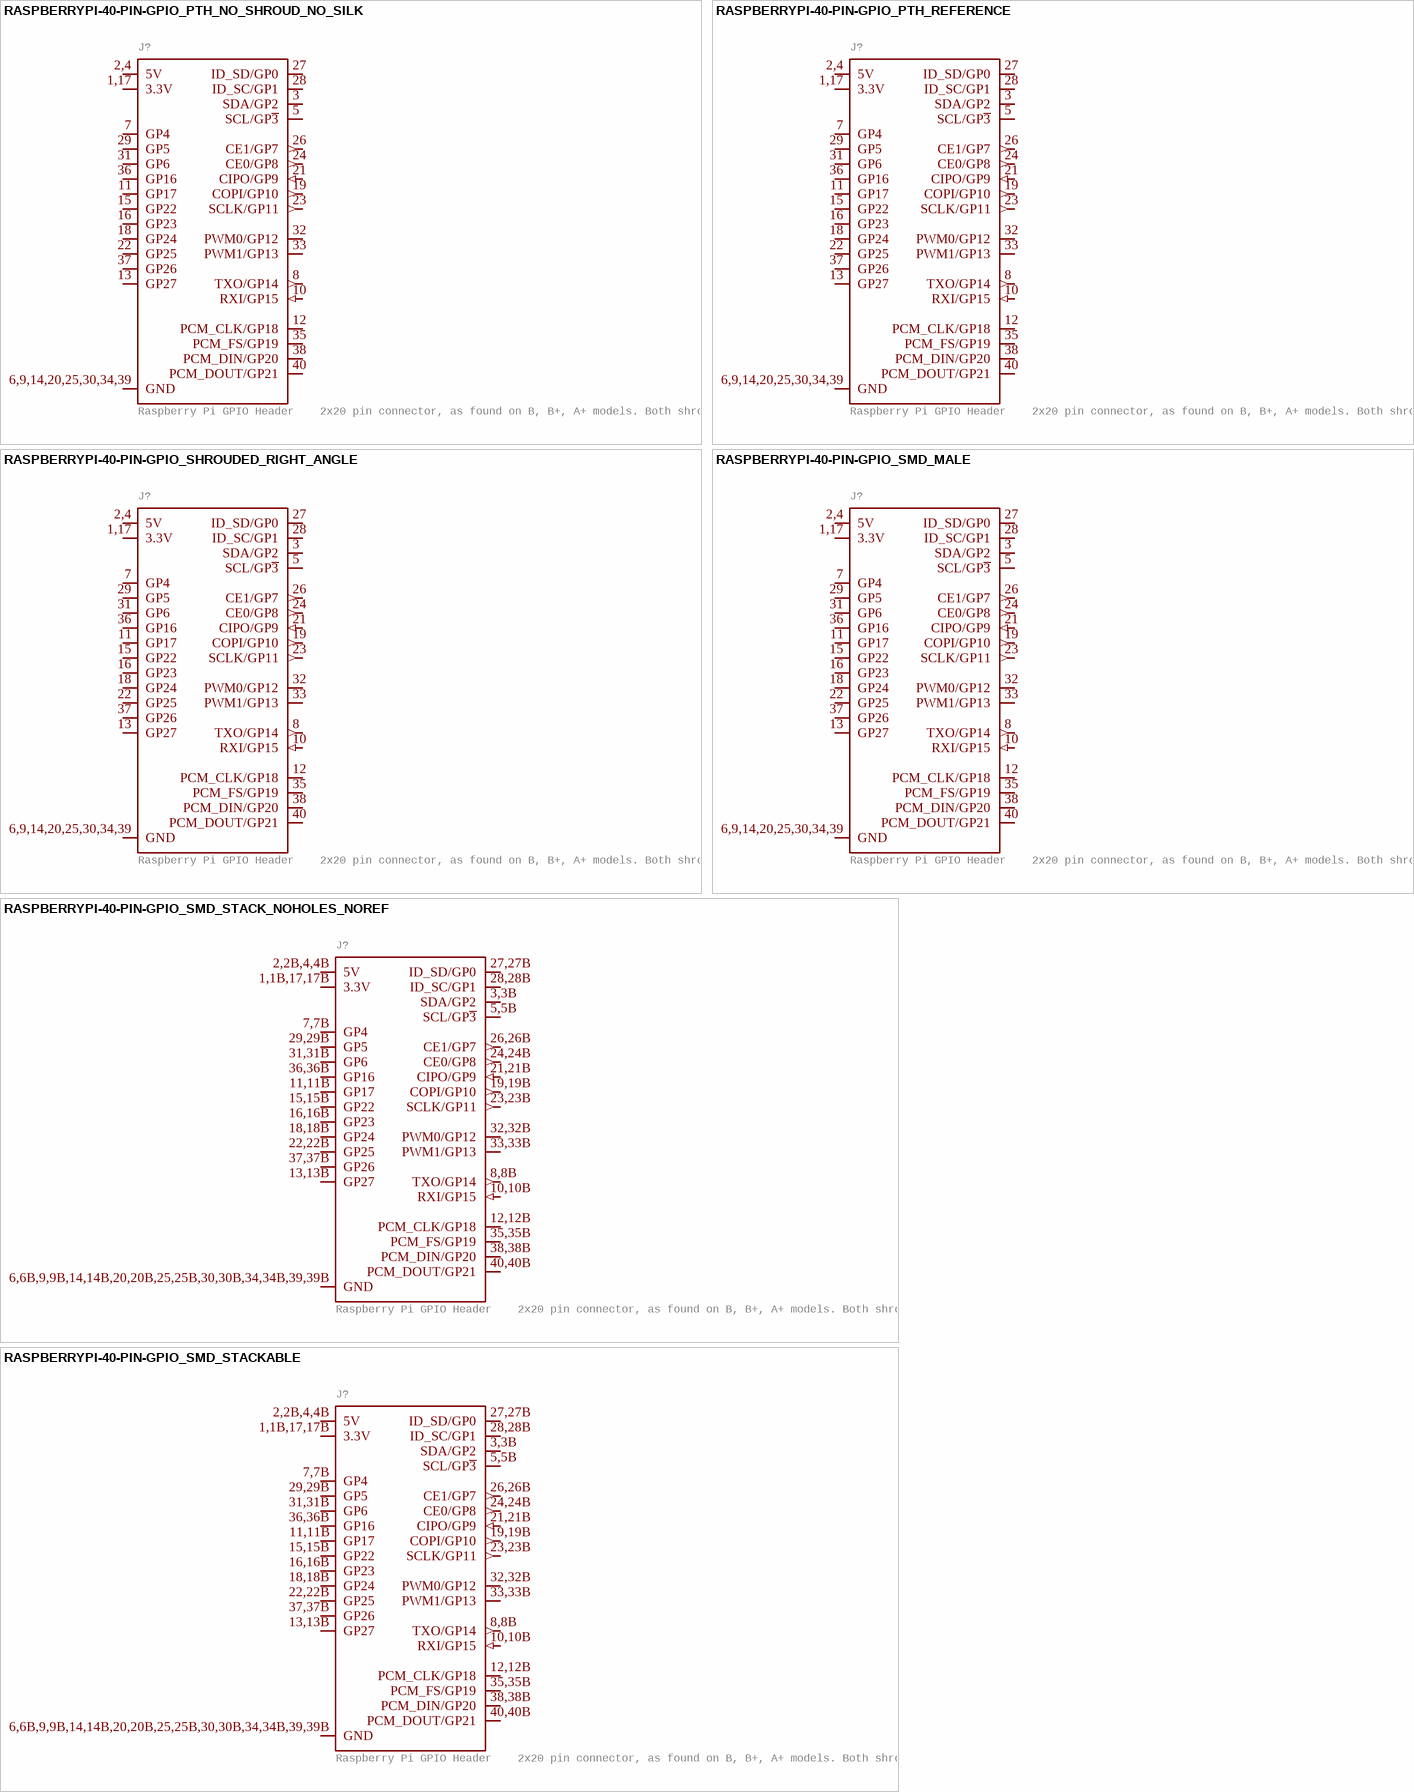
[diagram p19: symbols RASPBERRYPI-40-PIN-GPIO_PTH_NO_SHROUD_NO_SILK to RASPBERRYPI-40-PIN-GPIO_SMD_STACKABLE]

## RASPBERRYPI-40-PIN-GPIO_PTH_NO_SHROUD_NO_SILK
designator J?, comment Raspberry Pi GPIO Header    2x20 pin connector, as found on B, B+, A+ models. Both shrouded PTH and SMT versions available.   SparkFun Products: GPIO Shrouded Header- PTH  SparkFun Pi Wedge (Preassembled)
GateName_1: G$1; SymbolName_1: RASPBERRYPI_40_PIN_GPIO; DeviceName: _PTH_NO_SHROUD_NO_SILK; DeviceSetName: RASPBERRYPI-40-PIN-GPIO; LibraryName: SparkFun-Connectors; Package: 2X20_NOSILK
footprint 2X20_NOSILK
pins: 1,17 3.3V (power), 2,4 5V (power), 3 SDA/GP2 (io), 5 SCL/GP~{3} (io), 6,9,14,20,25,30,34,39 GND (power), 7 GP4 (io), 8 TXO/GP14 (out), 10 RXI/GP15 (in), 11 GP17 (io), 12 PCM_CLK/GP18 (io), 13 GP27 (io), 15 GP22 (io), 16 GP23 (io), 18 GP24 (io), 19 COPI/GP10 (out), 21 CIPO/GP9 (in), 22 GP25 (io), 23 SCLK/GP11 (out), 24 CE0/GP8 (out), 26 CE1/GP7 (out), 27 ID_SD/GP0 (io), 28 ID_SC/GP1 (io), 29 GP5 (io), 31 GP6 (io), 32 PWM0/GP12 (io), 33 PWM1/GP13 (io), 35 PCM_FS/GP19 (io), 36 GP16 (io), 37 GP26 (io), 38 PCM_DIN/GP20 (io), 40 PCM_DOUT/GP21 (io)

## RASPBERRYPI-40-PIN-GPIO_PTH_REFERENCE
designator J?, comment Raspberry Pi GPIO Header    2x20 pin connector, as found on B, B+, A+ models. Both shrouded PTH and SMT versions available.   SparkFun Products: GPIO Shrouded Header- PTH  SparkFun Pi Wedge (Preassembled)
GateName_1: G$1; SymbolName_1: RASPBERRYPI_40_PIN_GPIO; DeviceName: _PTH_REFERENCE; DeviceSetName: RASPBERRYPI-40-PIN-GPIO; LibraryName: SparkFun-Connectors; Package: RASPBERRY_PI_HAT_40_PIN_PTH_WITH_REFERNCE
footprint RASPBERRY_PI_HAT_40_PIN_PTH_WITH_REFERNCE
pins: 1,17 3.3V (power), 2,4 5V (power), 3 SDA/GP2 (io), 5 SCL/GP~{3} (io), 6,9,14,20,25,30,34,39 GND (power), 7 GP4 (io), 8 TXO/GP14 (out), 10 RXI/GP15 (in), 11 GP17 (io), 12 PCM_CLK/GP18 (io), 13 GP27 (io), 15 GP22 (io), 16 GP23 (io), 18 GP24 (io), 19 COPI/GP10 (out), 21 CIPO/GP9 (in), 22 GP25 (io), 23 SCLK/GP11 (out), 24 CE0/GP8 (out), 26 CE1/GP7 (out), 27 ID_SD/GP0 (io), 28 ID_SC/GP1 (io), 29 GP5 (io), 31 GP6 (io), 32 PWM0/GP12 (io), 33 PWM1/GP13 (io), 35 PCM_FS/GP19 (io), 36 GP16 (io), 37 GP26 (io), 38 PCM_DIN/GP20 (io), 40 PCM_DOUT/GP21 (io)

## RASPBERRYPI-40-PIN-GPIO_SHROUDED_RIGHT_ANGLE
designator J?, comment Raspberry Pi GPIO Header    2x20 pin connector, as found on B, B+, A+ models. Both shrouded PTH and SMT versions available.   SparkFun Products: GPIO Shrouded Header- PTH  SparkFun Pi Wedge (Preassembled)
GateName_1: G$1; SymbolName_1: RASPBERRYPI_40_PIN_GPIO; DeviceName: _SHROUDED_RIGHT_ANGLE; DeviceSetName: RASPBERRYPI-40-PIN-GPIO; PROD_ID: CONN-15471; LibraryName: SparkFun-Connectors; Package: 2X20_RIGHT_ANGLE
footprint 2X20_RIGHT_ANGLE
pins: 1,17 3.3V (power), 2,4 5V (power), 3 SDA/GP2 (io), 5 SCL/GP~{3} (io), 6,9,14,20,25,30,34,39 GND (power), 7 GP4 (io), 8 TXO/GP14 (out), 10 RXI/GP15 (in), 11 GP17 (io), 12 PCM_CLK/GP18 (io), 13 GP27 (io), 15 GP22 (io), 16 GP23 (io), 18 GP24 (io), 19 COPI/GP10 (out), 21 CIPO/GP9 (in), 22 GP25 (io), 23 SCLK/GP11 (out), 24 CE0/GP8 (out), 26 CE1/GP7 (out), 27 ID_SD/GP0 (io), 28 ID_SC/GP1 (io), 29 GP5 (io), 31 GP6 (io), 32 PWM0/GP12 (io), 33 PWM1/GP13 (io), 35 PCM_FS/GP19 (io), 36 GP16 (io), 37 GP26 (io), 38 PCM_DIN/GP20 (io), 40 PCM_DOUT/GP21 (io)

## RASPBERRYPI-40-PIN-GPIO_SMD_MALE
designator J?, comment Raspberry Pi GPIO Header    2x20 pin connector, as found on B, B+, A+ models. Both shrouded PTH and SMT versions available.   SparkFun Products: GPIO Shrouded Header- PTH  SparkFun Pi Wedge (Preassembled)
GateName_1: G$1; SymbolName_1: RASPBERRYPI_40_PIN_GPIO; DeviceName: _SMD_MALE; DeviceSetName: RASPBERRYPI-40-PIN-GPIO; PROD_ID: CONN-14915; LibraryName: SparkFun-Connectors; Package: RASPBERRY_PI_HAT_40_PIN_SMD_MALE
footprint RASPBERRY_PI_HAT_40_PIN_SMD_MALE
pins: 1,17 3.3V (power), 2,4 5V (power), 3 SDA/GP2 (io), 5 SCL/GP~{3} (io), 6,9,14,20,25,30,34,39 GND (power), 7 GP4 (io), 8 TXO/GP14 (out), 10 RXI/GP15 (in), 11 GP17 (io), 12 PCM_CLK/GP18 (io), 13 GP27 (io), 15 GP22 (io), 16 GP23 (io), 18 GP24 (io), 19 COPI/GP10 (out), 21 CIPO/GP9 (in), 22 GP25 (io), 23 SCLK/GP11 (out), 24 CE0/GP8 (out), 26 CE1/GP7 (out), 27 ID_SD/GP0 (io), 28 ID_SC/GP1 (io), 29 GP5 (io), 31 GP6 (io), 32 PWM0/GP12 (io), 33 PWM1/GP13 (io), 35 PCM_FS/GP19 (io), 36 GP16 (io), 37 GP26 (io), 38 PCM_DIN/GP20 (io), 40 PCM_DOUT/GP21 (io)

## RASPBERRYPI-40-PIN-GPIO_SMD_STACK_NOHOLES_NOREF
designator J?, comment Raspberry Pi GPIO Header    2x20 pin connector, as found on B, B+, A+ models. Both shrouded PTH and SMT versions available.   SparkFun Products: GPIO Shrouded Header- PTH  SparkFun Pi Wedge (Preassembled)
GateName_1: G$1; SymbolName_1: RASPBERRYPI_40_PIN_GPIO; DeviceName: _SMD_STACK_NOHOLES_NOREF; DeviceSetName: RASPBERRYPI-40-PIN-GPIO; LibraryName: SparkFun-Connectors; Package: RASPBERRY_PI_HAT_40_PIN_SMD_STACKABLE_NOHOLES_NOREF
footprint RASPBERRY_PI_HAT_40_PIN_SMD_STACKABLE_NOHOLES_NOREF
pins: 1,1B,17,17B 3.3V (power), 2,2B,4,4B 5V (power), 3,3B SDA/GP2 (io), 5,5B SCL/GP~{3} (io), 6,6B,9,9B,14,14B,20,20B,25,25B,30,30B,34,34B,39,39B GND (power), 7,7B GP4 (io), 8,8B TXO/GP14 (out), 10,10B RXI/GP15 (in), 11,11B GP17 (io), 12,12B PCM_CLK/GP18 (io), 13,13B GP27 (io), 15,15B GP22 (io), 16,16B GP23 (io), 18,18B GP24 (io), 19,19B COPI/GP10 (out), 21,21B CIPO/GP9 (in), 22,22B GP25 (io), 23,23B SCLK/GP11 (out), 24,24B CE0/GP8 (out), 26,26B CE1/GP7 (out), 27,27B ID_SD/GP0 (io), 28,28B ID_SC/GP1 (io), 29,29B GP5 (io), 31,31B GP6 (io), 32,32B PWM0/GP12 (io), 33,33B PWM1/GP13 (io), 35,35B PCM_FS/GP19 (io), 36,36B GP16 (io), 37,37B GP26 (io), 38,38B PCM_DIN/GP20 (io), 40,40B PCM_DOUT/GP21 (io)

## RASPBERRYPI-40-PIN-GPIO_SMD_STACKABLE
designator J?, comment Raspberry Pi GPIO Header    2x20 pin connector, as found on B, B+, A+ models. Both shrouded PTH and SMT versions available.   SparkFun Products: GPIO Shrouded Header- PTH  SparkFun Pi Wedge (Preassembled)
GateName_1: G$1; SymbolName_1: RASPBERRYPI_40_PIN_GPIO; DeviceName: _SMD_STACKABLE; DeviceSetName: RASPBERRYPI-40-PIN-GPIO; PROD_ID: CONN-14914; PROD_ID_2: CONN-14915; LibraryName: SparkFun-Connectors; Package: RASPBERRY_PI_HAT_40_PIN_SMD_STACKABLE
footprint RASPBERRY_PI_HAT_40_PIN_SMD_STACKABLE
pins: 1,1B,17,17B 3.3V (power), 2,2B,4,4B 5V (power), 3,3B SDA/GP2 (io), 5,5B SCL/GP~{3} (io), 6,6B,9,9B,14,14B,20,20B,25,25B,30,30B,34,34B,39,39B GND (power), 7,7B GP4 (io), 8,8B TXO/GP14 (out), 10,10B RXI/GP15 (in), 11,11B GP17 (io), 12,12B PCM_CLK/GP18 (io), 13,13B GP27 (io), 15,15B GP22 (io), 16,16B GP23 (io), 18,18B GP24 (io), 19,19B COPI/GP10 (out), 21,21B CIPO/GP9 (in), 22,22B GP25 (io), 23,23B SCLK/GP11 (out), 24,24B CE0/GP8 (out), 26,26B CE1/GP7 (out), 27,27B ID_SD/GP0 (io), 28,28B ID_SC/GP1 (io), 29,29B GP5 (io), 31,31B GP6 (io), 32,32B PWM0/GP12 (io), 33,33B PWM1/GP13 (io), 35,35B PCM_FS/GP19 (io), 36,36B GP16 (io), 37,37B GP26 (io), 38,38B PCM_DIN/GP20 (io), 40,40B PCM_DOUT/GP21 (io)

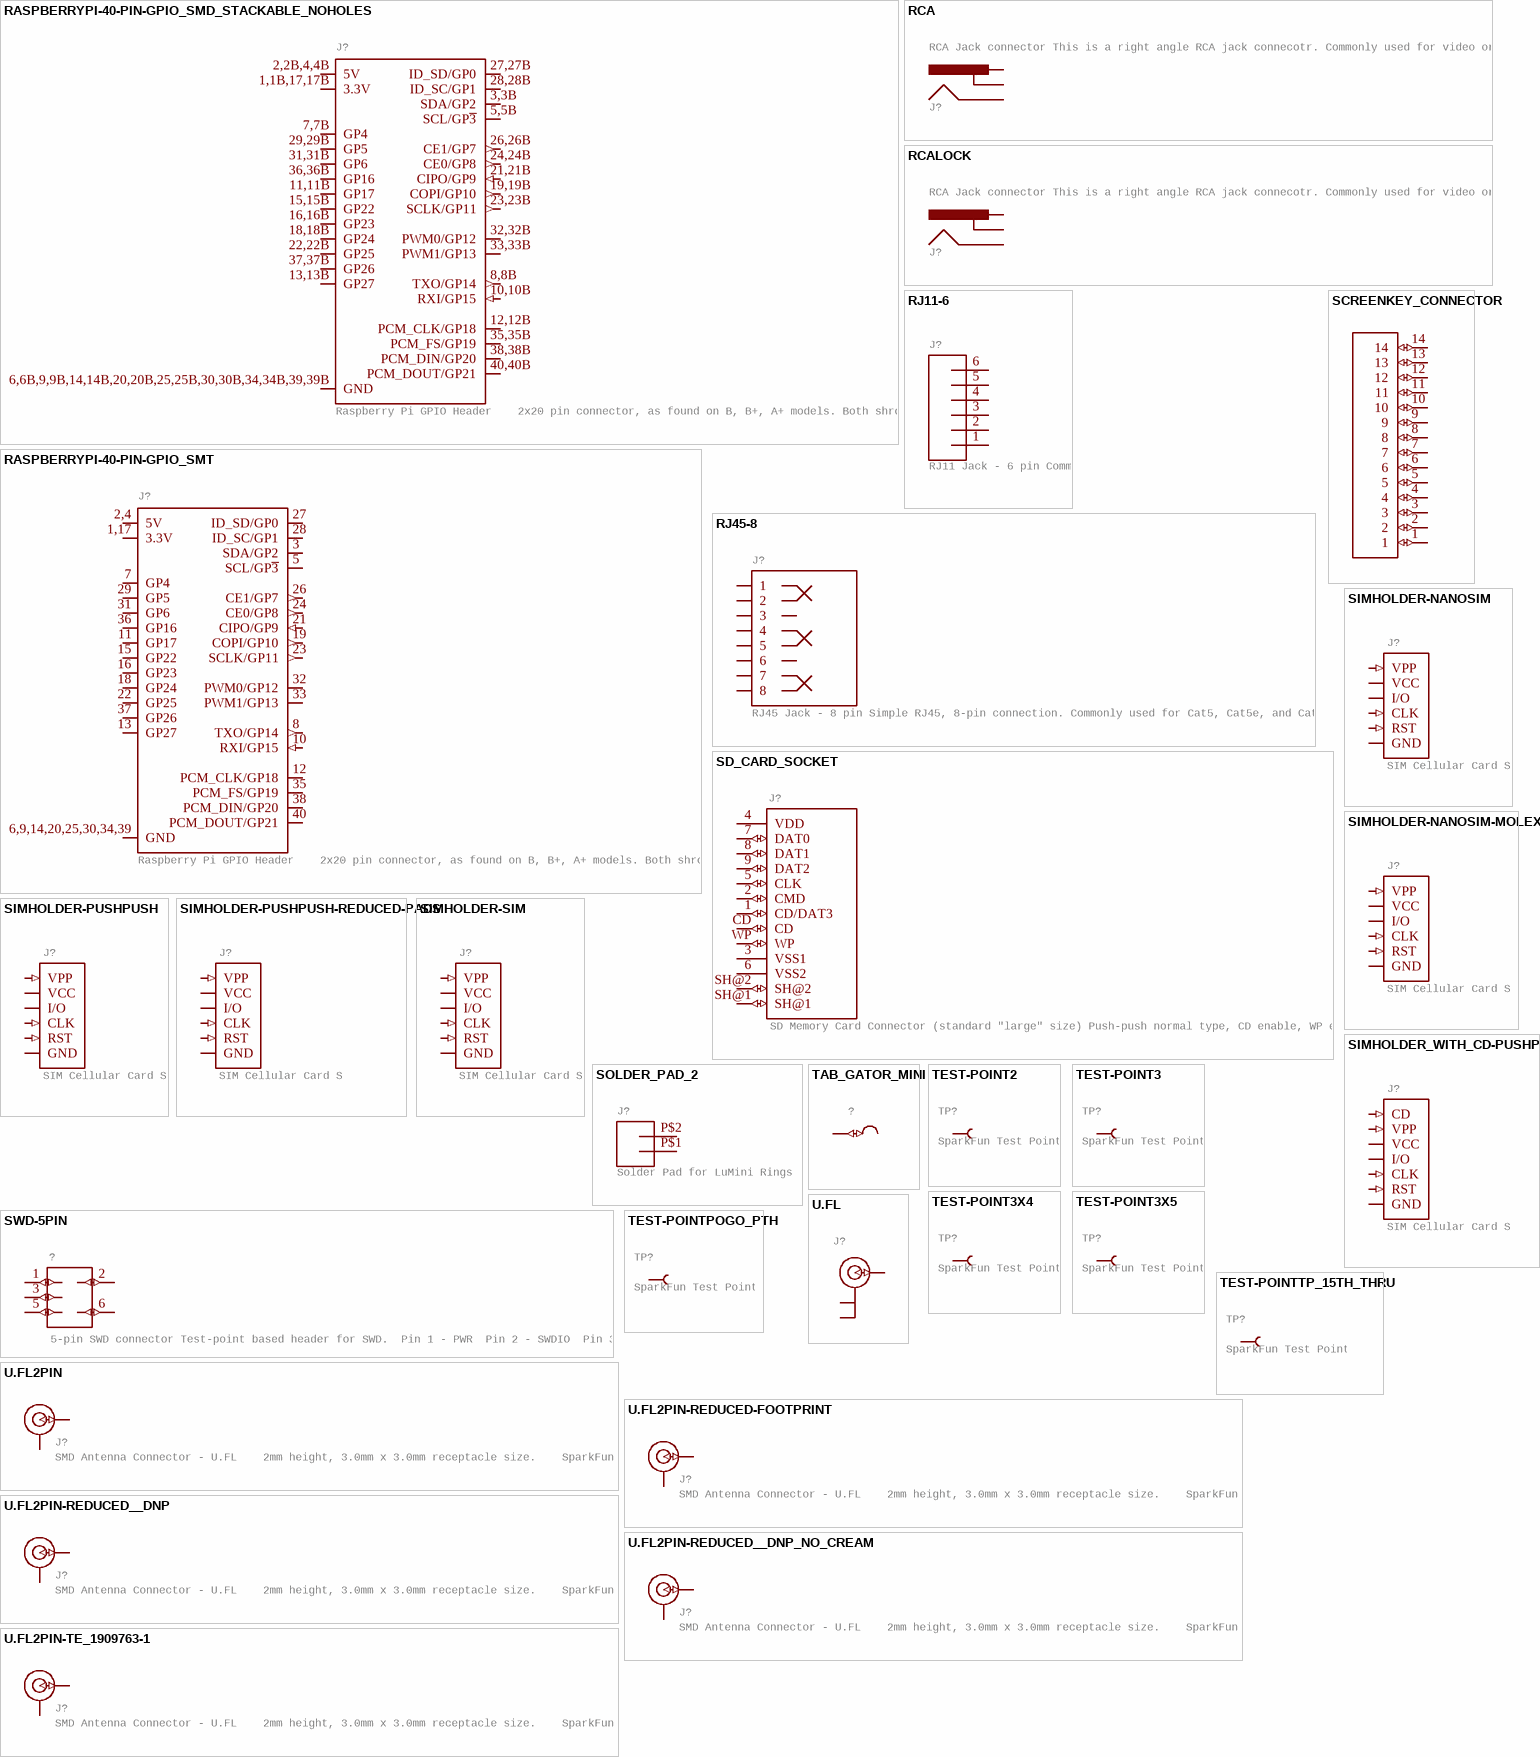
[diagram p20: symbols RASPBERRYPI-40-PIN-GPIO_SMD_STACKABLE_NOHOLES to U.FL2PIN-TE_1909763-1]

## RASPBERRYPI-40-PIN-GPIO_SMD_STACKABLE_NOHOLES
designator J?, comment Raspberry Pi GPIO Header    2x20 pin connector, as found on B, B+, A+ models. Both shrouded PTH and SMT versions available.   SparkFun Products: GPIO Shrouded Header- PTH  SparkFun Pi Wedge (Preassembled)
GateName_1: G$1; SymbolName_1: RASPBERRYPI_40_PIN_GPIO; DeviceName: _SMD_STACKABLE_NOHOLES; DeviceSetName: RASPBERRYPI-40-PIN-GPIO; PROD_ID: CONN-14914; PROD_ID_2: CONN-14915; LibraryName: SparkFun-Connectors; Package: RASPBERRY_PI_HAT_40_PIN_SMD_STACKABLE_NOHOLES
footprint RASPBERRY_PI_HAT_40_PIN_SMD_STACKABLE_NOHOLES
pins: 1,1B,17,17B 3.3V (power), 2,2B,4,4B 5V (power), 3,3B SDA/GP2 (io), 5,5B SCL/GP~{3} (io), 6,6B,9,9B,14,14B,20,20B,25,25B,30,30B,34,34B,39,39B GND (power), 7,7B GP4 (io), 8,8B TXO/GP14 (out), 10,10B RXI/GP15 (in), 11,11B GP17 (io), 12,12B PCM_CLK/GP18 (io), 13,13B GP27 (io), 15,15B GP22 (io), 16,16B GP23 (io), 18,18B GP24 (io), 19,19B COPI/GP10 (out), 21,21B CIPO/GP9 (in), 22,22B GP25 (io), 23,23B SCLK/GP11 (out), 24,24B CE0/GP8 (out), 26,26B CE1/GP7 (out), 27,27B ID_SD/GP0 (io), 28,28B ID_SC/GP1 (io), 29,29B GP5 (io), 31,31B GP6 (io), 32,32B PWM0/GP12 (io), 33,33B PWM1/GP13 (io), 35,35B PCM_FS/GP19 (io), 36,36B GP16 (io), 37,37B GP26 (io), 38,38B PCM_DIN/GP20 (io), 40,40B PCM_DOUT/GP21 (io)

## RASPBERRYPI-40-PIN-GPIO_SMT
designator J?, comment Raspberry Pi GPIO Header    2x20 pin connector, as found on B, B+, A+ models. Both shrouded PTH and SMT versions available.   SparkFun Products: GPIO Shrouded Header- PTH  SparkFun Pi Wedge (Preassembled)
GateName_1: G$1; SymbolName_1: RASPBERRYPI_40_PIN_GPIO; DeviceName: _SMT; DeviceSetName: RASPBERRYPI-40-PIN-GPIO; PROD_ID: CONN-13143; LibraryName: SparkFun-Connectors; Package: 2X20_SHROUDED_SMT
footprint 2X20_SHROUDED_SMT
pins: 1,17 3.3V (power), 2,4 5V (power), 3 SDA/GP2 (io), 5 SCL/GP~{3} (io), 6,9,14,20,25,30,34,39 GND (power), 7 GP4 (io), 8 TXO/GP14 (out), 10 RXI/GP15 (in), 11 GP17 (io), 12 PCM_CLK/GP18 (io), 13 GP27 (io), 15 GP22 (io), 16 GP23 (io), 18 GP24 (io), 19 COPI/GP10 (out), 21 CIPO/GP9 (in), 22 GP25 (io), 23 SCLK/GP11 (out), 24 CE0/GP8 (out), 26 CE1/GP7 (out), 27 ID_SD/GP0 (io), 28 ID_SC/GP1 (io), 29 GP5 (io), 31 GP6 (io), 32 PWM0/GP12 (io), 33 PWM1/GP13 (io), 35 PCM_FS/GP19 (io), 36 GP16 (io), 37 GP26 (io), 38 PCM_DIN/GP20 (io), 40 PCM_DOUT/GP21 (io)

## RCA
designator J?, comment RCA Jack connector This is a right angle RCA jack connecotr. Commonly used for video or audio.    Here is the connector we sell at SparkFun: RCA Jack (PRT-08631)  Datasheet      It is not used on any active designs, however it was used on a couple retired products: RCA Jack Breakout [RETIRED] (PRT-08826)  SparkFun On Screen Display Breakout - MAX7456 [RETIRED] (BOB-09168)       You may also be interested in a cable: RCA Video Cable - 6' (CAB-11573)
GateName_1: G$1; PROD_ID: CONN-09081; SymbolName_1: RCA; LibraryName: SparkFun-Connectors; DeviceSetName: RCA; Package: RCA; SF_ID: PRT-08631
footprint RCA
pins: PIN (io), SHELL (io), SWITCH (io)

## RCALOCK
designator J?, comment RCA Jack connector This is a right angle RCA jack connecotr. Commonly used for video or audio.    Here is the connector we sell at SparkFun: RCA Jack (PRT-08631)  Datasheet      It is not used on any active designs, however it was used on a couple retired products: RCA Jack Breakout [RETIRED] (PRT-08826)  SparkFun On Screen Display Breakout - MAX7456 [RETIRED] (BOB-09168)       You may also be interested in a cable: RCA Video Cable - 6' (CAB-11573)
GateName_1: G$1; DeviceName: LOCK; SymbolName_1: RCA; LibraryName: SparkFun-Connectors; DeviceSetName: RCA; Package: RCA_LOCK
footprint RCA_LOCK
pins: PIN (io), SHELL (io), SWITCH (io)

## RJ11-6
designator J?, comment RJ11 Jack - 6 pin Commonly found on CAT3 devices and some Microchip programmers.    Here is the connector we sell at SparkFun: RJ11 6-Pin Connector (PRT-00132)  Datasheet      It is used on this SparkFun product: SparkFun Weather Shield (DEV-12081)  Weather Meters (SEN-08942)
GateName_1: G$1; SymbolName_1: CONN_06; DeviceSetName: RJ11-6; PROD_ID: CONN-08590; LibraryName: SparkFun-Connectors; Package: RJ11-6; SF_ID: PRT-00132
footprint RJ11-6
pins: 1, 2, 3, 4, 5, 6

## RJ45-8
designator J?, comment RJ45 Jack - 8 pin Simple RJ45, 8-pin connection. Commonly used for Cat5, Cat5e, and Cat6 Ethernet cables.    Here is the connector we sell at SparkFun: RJ45 8-Pin Connector (PRT-00643)  Datasheet      It is used on this SparkFun product: SparkFun RJ45 Breakout (BOB-00716)        Note, you may also be interested in the "MAGJACK" version of this. It is basically a RJ45 connector, but also has some status LEDs built into the connector housing. You can check that out in this library at the device named "MAGJACK.dev" and see these products online: RJ45 Ethernet MagJack-Compatible (PRT-08534)  SparkFun RJ45 MagJack Breakout (BOB-13021)
GateName_1: JP1; SymbolName_1: RJ45-8; PROD_ID: CONN-08506; LibraryName: SparkFun-Connectors; DeviceSetName: RJ45-8; Package: RJ45-8; SF_ID: PRT-00643
footprint RJ45-8
pins: 1 (io), 2 (io), 3 (io), 4 (io), 5 (io), 6 (io), 7 (io), 8 (io)

## SCREENKEY_CONNECTOR
designator J?, comment Connector for the ScreenKey This is a tiny, locking 14-pin FPC/FFC connector that mates with the TFT ScreenKeys and their displays. These connectors require a really minimal amount of force to close, which is great for the delicate wires theyâ€™re designed for.   Unfortunately, we no longer sell the ScreenKey TFT128 or the  TFT128 Display, however we do still sell the connector.    Here is the connector we sell at SparkFun: ScreenKey Mating Connector (PRT-09586)  Datasheet (FH12-14S-0.5SH)  (value not drawn)
GateName_1: G$1; DeviceSetName: SCREENKEY_CONNECTOR; PROD_ID: CONN-09581; SymbolName_1: SCREENKEYMATINGCONNECTOR; LibraryName: SparkFun-Connectors; Package: SCREENKEY_MATING_CONNECTOR; SF_ID: PRT-09586
footprint SCREENKEY_MATING_CONNECTOR
pins: 1 (io), 2 (io), 3 (io), 4 (io), 5 (io), 6 (io), 7 (io), 8 (io), 9 (io), 10 (io), 11 (io), 12 (io), 13 (io), 14 (io)

## SD_CARD_SOCKET
designator J?, comment SD Memory Card Connector (standard "large" size) Push-push normal type, CD enable, WP enable.    Here is the connector we sell at SparkFun: SD/MMC Socket (PRT-12769)  Datasheet      It is used on these SparkFun products: SparkFun SD/MMC Card Breakout (BOB-12941)  SD Sniffer (TOL-11468)
GateName_1: G$1; SymbolName_1: SDCARD-1; DeviceSetName: SD_CARD_SOCKET; PROD_ID: CONN-11976; LibraryName: SparkFun-Connectors; Package: SD; SF_ID: PRT-12769
footprint SD
pins: 1 CD/DAT3 (io), 2 CMD (io), 3 VSS1 (power), 4 VDD (power), 5 CLK (io), 6 VSS2 (power), 7 DAT0 (io), 8 DAT1 (io), 9 DAT2 (io), CD (io), SH@1 (io), SH@2 (io), WP (io)

## SIMHOLDER-NANOSIM
designator J?, comment SIM Cellular Card Socket    SMT 6 pin standard connection.    SparkFun Products: SIM Socket  SparkFun Cellular Shield - MG2639  SparkFun SIM Card Socket Breakout
GateName_1: J1; SymbolName_1: SIMHOLDER; DeviceName: -NANOSIM; PROD_ID: CONN-14097; LibraryName: SparkFun-Connectors; DeviceSetName: SIMHOLDER; Package: NANO_SIM_WURTH_693043020611
footprint NANO_SIM_WURTH_693043020611
pins: C1 VCC (power), C2 RST (in), C3 CLK (in), C5 GND (power), C6 VPP (in), C7 I/O (io)

## SIMHOLDER-NANOSIM-MOLEX
designator J?, comment SIM Cellular Card Socket    SMT 6 pin standard connection.    SparkFun Products: SIM Socket  SparkFun Cellular Shield - MG2639  SparkFun SIM Card Socket Breakout
GateName_1: J1; SymbolName_1: SIMHOLDER; DeviceName: -NANOSIM-MOLEX; PROD_ID: CONN-15682; LibraryName: SparkFun-Connectors; DeviceSetName: SIMHOLDER; Package: NANO_SIM_MOLEX_104224-0820
footprint NANO_SIM_MOLEX_104224-0820
pins: G1,G2,G3,G4,S4 GND (power), S1 VCC (power), S2 RST (in), S3 CLK (in), S5 VPP (in), S6 I/O (io)

## SIMHOLDER-PUSHPUSH
designator J?, comment SIM Cellular Card Socket    SMT 6 pin standard connection.    SparkFun Products: SIM Socket  SparkFun Cellular Shield - MG2639  SparkFun SIM Card Socket Breakout
GateName_1: J1; SymbolName_1: SIMHOLDER; DeviceName: -PUSHPUSH; PROD_ID: CONN-16272; LibraryName: SparkFun-Connectors; DeviceSetName: SIMHOLDER; Package: NANO_SIM_PP
footprint NANO_SIM_PP
pins: C1 VCC (power), C2 RST (in), C3 CLK (in), C5 GND (power), C6 VPP (in), C7 I/O (io)

## SIMHOLDER-PUSHPUSH-REDUCED-PADS
designator J?, comment SIM Cellular Card Socket    SMT 6 pin standard connection.    SparkFun Products: SIM Socket  SparkFun Cellular Shield - MG2639  SparkFun SIM Card Socket Breakout
GateName_1: J1; SymbolName_1: SIMHOLDER; DeviceName: -PUSHPUSH-REDUCED-PADS; PROD_ID: CONN-16272; LibraryName: SparkFun-Connectors; DeviceSetName: SIMHOLDER; Package: NANO_SIM_PP_REDUCED_PADS
footprint NANO_SIM_PP_REDUCED_PADS
pins: C1 VCC (power), C2 RST (in), C3 CLK (in), C5 GND (power), C6 VPP (in), C7 I/O (io)

## SIMHOLDER-SIM
designator J?, comment SIM Cellular Card Socket    SMT 6 pin standard connection.    SparkFun Products: SIM Socket  SparkFun Cellular Shield - MG2639  SparkFun SIM Card Socket Breakout
GateName_1: J1; SymbolName_1: SIMHOLDER; DeviceName: -SIM; PROD_ID: CONN-08536; SF_ID: PRT-00548; LibraryName: SparkFun-Connectors; DeviceSetName: SIMHOLDER; Package: SIMHOLDER
footprint SIMHOLDER
pins: C1 VCC (power), C2 RST (in), C3 CLK (in), C5 GND (power), C6 VPP (in), C7 I/O (io)

## SIMHOLDER_WITH_CD-PUSHPUSH
designator J?, comment SIM Cellular Card Socket    SMT 6 pin standard connection.    SparkFun Products: SIM Socket  SparkFun Cellular Shield - MG2639  SparkFun SIM Card Socket Breakout
GateName_1: J1; SymbolName_1: SIMHOLDER-1; DeviceName: -PUSHPUSH; DeviceSetName: SIMHOLDER_WITH_CD; PROD_ID: CONN-16272; LibraryName: SparkFun-Connectors; Package: NANO_SIM_PP
footprint NANO_SIM_PP
pins: A1,A2,A3,A4,C5 GND (power), C1 VCC (power), C2 RST (in), C3 CLK (in), C6 VPP (in), C7 I/O (io), CD (in)

## SOLDER_PAD_2
designator J?, comment Solder Pad for LuMini Rings
GateName_1: G$1; SymbolName_1: CONN_02; DeviceSetName: SOLDER_PAD_2; LibraryName: SparkFun-Connectors; Package: SOLDER_PAD_2
footprint SOLDER_PAD_2
pins: P$1 1, P$2 2

## SWD-5PIN
designator ?, comment 5-pin SWD connector Test-point based header for SWD.  Pin 1 - PWR  Pin 2 - SWDIO  Pin 3 - SWCLK  Pin 4 - NC  Pin 5 - GND  Pin 6 - RESET
GateName_1: G$1; SymbolName_1: CONN_03X2_NO4; DeviceSetName: SWD-5PIN; LibraryName: SparkFun-Connectors; Package: PAD_05_03X2_TP_NO4
footprint PAD_05_03X2_TP_NO4
pins: 1 (io), 2 (io), 3 (io), 5 (io), 6 (io)

## TAB_GATOR_MINI
designator ?
GateName_1: G$1; SymbolName_1: TAB_MICRO_BIT_GATOR_CLIP; DeviceSetName: TAB_GATOR_MINI; LibraryName: SparkFun-Connectors; Package: TAB_GATOR_MINI
footprint TAB_GATOR_MINI
pins: P1 P$1 (io)

## TEST-POINT2
designator TP?, comment SparkFun Test Points    Bare copper test points for troubleshooting or In-Circuit-Testing. These are used by our Production team for verifying production board runs using pogo-pins on test beds.   SparkFun Products: SparkFun LSM9DS1 Breakout  SparkFun PSOC  SparkFun Load Cell Amplifier
GateName_1: G$1; SymbolName_1: TEST-POINT; DeviceName: 2; LibraryName: SparkFun-Connectors; DeviceSetName: TEST-POINT; Package: PAD.02X.02
footprint PAD.02X.02
pins: 1 (io)

## TEST-POINT3
designator TP?, comment SparkFun Test Points    Bare copper test points for troubleshooting or In-Circuit-Testing. These are used by our Production team for verifying production board runs using pogo-pins on test beds.   SparkFun Products: SparkFun LSM9DS1 Breakout  SparkFun PSOC  SparkFun Load Cell Amplifier
GateName_1: G$1; SymbolName_1: TEST-POINT; DeviceName: 3; LibraryName: SparkFun-Connectors; DeviceSetName: TEST-POINT; Package: PAD.03X.03
footprint PAD.03X.03
pins: 1 (io)

## TEST-POINT3X4
designator TP?, comment SparkFun Test Points    Bare copper test points for troubleshooting or In-Circuit-Testing. These are used by our Production team for verifying production board runs using pogo-pins on test beds.   SparkFun Products: SparkFun LSM9DS1 Breakout  SparkFun PSOC  SparkFun Load Cell Amplifier
GateName_1: G$1; SymbolName_1: TEST-POINT; DeviceName: 3X4; LibraryName: SparkFun-Connectors; DeviceSetName: TEST-POINT; Package: PAD.03X.04
footprint PAD.03X.04
pins: 1 (io)

## TEST-POINT3X5
designator TP?, comment SparkFun Test Points    Bare copper test points for troubleshooting or In-Circuit-Testing. These are used by our Production team for verifying production board runs using pogo-pins on test beds.   SparkFun Products: SparkFun LSM9DS1 Breakout  SparkFun PSOC  SparkFun Load Cell Amplifier
GateName_1: G$1; SymbolName_1: TEST-POINT; DeviceName: 3X5; LibraryName: SparkFun-Connectors; DeviceSetName: TEST-POINT; Package: PAD.03X.05
footprint PAD.03X.05
pins: 1 (io)

## TEST-POINTPOGO_PTH
designator TP?, comment SparkFun Test Points    Bare copper test points for troubleshooting or In-Circuit-Testing. These are used by our Production team for verifying production board runs using pogo-pins on test beds.   SparkFun Products: SparkFun LSM9DS1 Breakout  SparkFun PSOC  SparkFun Load Cell Amplifier
GateName_1: G$1; SymbolName_1: TEST-POINT; DeviceName: POGO_PTH; LibraryName: SparkFun-Connectors; DeviceSetName: TEST-POINT; Package: 1X01_NO_SILK
footprint 1X01_NO_SILK
pins: 1 (io)

## TEST-POINTTP_15TH_THRU
designator TP?, comment SparkFun Test Points    Bare copper test points for troubleshooting or In-Circuit-Testing. These are used by our Production team for verifying production board runs using pogo-pins on test beds.   SparkFun Products: SparkFun LSM9DS1 Breakout  SparkFun PSOC  SparkFun Load Cell Amplifier
GateName_1: G$1; SymbolName_1: TEST-POINT; DeviceName: TP_15TH_THRU; LibraryName: SparkFun-Connectors; DeviceSetName: TEST-POINT; Package: TP_15TH
footprint TP_15TH
pins: 1 (io)

## U.FL
designator J?, comment SMD Antenna Connector - U.FL    2mm height, 3.0mm x 3.0mm receptacle size.    SparkFun Products: SparkFun WiFi Shield - ESP8266  SparkFun ESP8266 Thing  SparkFun MiniGen - Pro Mini Signal Generator Shield  (value not drawn)
GateName_1: G$1; PROD_ID: CONN-09193; SF_ID: WRL-09144; SymbolName_1: U.FL; LibraryName: SparkFun-Connectors; DeviceSetName: U.FL; Package: U.FL
footprint U.FL
pins: 1 GND@0 (io), 2 GND@1 (io), FEED SIGNAL (io)

## U.FL2PIN
designator J?, comment SMD Antenna Connector - U.FL    2mm height, 3.0mm x 3.0mm receptacle size.    SparkFun Products: SparkFun WiFi Shield - ESP8266  SparkFun ESP8266 Thing  SparkFun MiniGen - Pro Mini Signal Generator Shield
GateName_1: J1; SymbolName_1: U.FL-1; DeviceSetName: U.FL2PIN; PROD_ID: CONN-09193; SF_ID: WRL-09144; LibraryName: SparkFun-Connectors; Package: U.FL
footprint U.FL
pins: 1,2 GND (io), FEED SIGNAL (io)

## U.FL2PIN-REDUCED-FOOTPRINT
designator J?, comment SMD Antenna Connector - U.FL    2mm height, 3.0mm x 3.0mm receptacle size.    SparkFun Products: SparkFun WiFi Shield - ESP8266  SparkFun ESP8266 Thing  SparkFun MiniGen - Pro Mini Signal Generator Shield
GateName_1: J1; SymbolName_1: U.FL-1; DeviceName: -REDUCED-FOOTPRINT; DeviceSetName: U.FL2PIN; PROD_ID: CONN-09193; LibraryName: SparkFun-Connectors; Package: U.FL_REDUCED_FOOTPRINT
footprint U.FL_REDUCED_FOOTPRINT
pins: 1,2 GND (io), FEED SIGNAL (io)

## U.FL2PIN-REDUCED__DNP
designator J?, comment SMD Antenna Connector - U.FL    2mm height, 3.0mm x 3.0mm receptacle size.    SparkFun Products: SparkFun WiFi Shield - ESP8266  SparkFun ESP8266 Thing  SparkFun MiniGen - Pro Mini Signal Generator Shield
GateName_1: J1; SymbolName_1: U.FL-1; DeviceName: -REDUCED__DNP; DeviceSetName: U.FL2PIN; LibraryName: SparkFun-Connectors; Package: U.FL_REDUCED_FOOTPRINT
footprint U.FL_REDUCED_FOOTPRINT
pins: 1,2 GND (io), FEED SIGNAL (io)

## U.FL2PIN-REDUCED__DNP_NO_CREAM
designator J?, comment SMD Antenna Connector - U.FL    2mm height, 3.0mm x 3.0mm receptacle size.    SparkFun Products: SparkFun WiFi Shield - ESP8266  SparkFun ESP8266 Thing  SparkFun MiniGen - Pro Mini Signal Generator Shield
GateName_1: J1; SymbolName_1: U.FL-1; DeviceName: -REDUCED__DNP_NO_CREAM; DeviceSetName: U.FL2PIN; LibraryName: SparkFun-Connectors; Package: U.FL_REDUCED_FOOTPRINT__NO_CREAM
footprint U.FL_REDUCED_FOOTPRINT__NO_CREAM
pins: 1,2 GND (io), FEED SIGNAL (io)

## U.FL2PIN-TE_1909763-1
designator J?, comment SMD Antenna Connector - U.FL    2mm height, 3.0mm x 3.0mm receptacle size.    SparkFun Products: SparkFun WiFi Shield - ESP8266  SparkFun ESP8266 Thing  SparkFun MiniGen - Pro Mini Signal Generator Shield
GateName_1: J1; SymbolName_1: U.FL-1; DeviceName: -TE_1909763-1; DeviceSetName: U.FL2PIN; PROD_ID: CONN-15410; LibraryName: SparkFun-Connectors; Package: U.FL-TE_1909763-1
footprint U.FL-TE_1909763-1
pins: 1 SIGNAL (io), 2,3 GND (io)

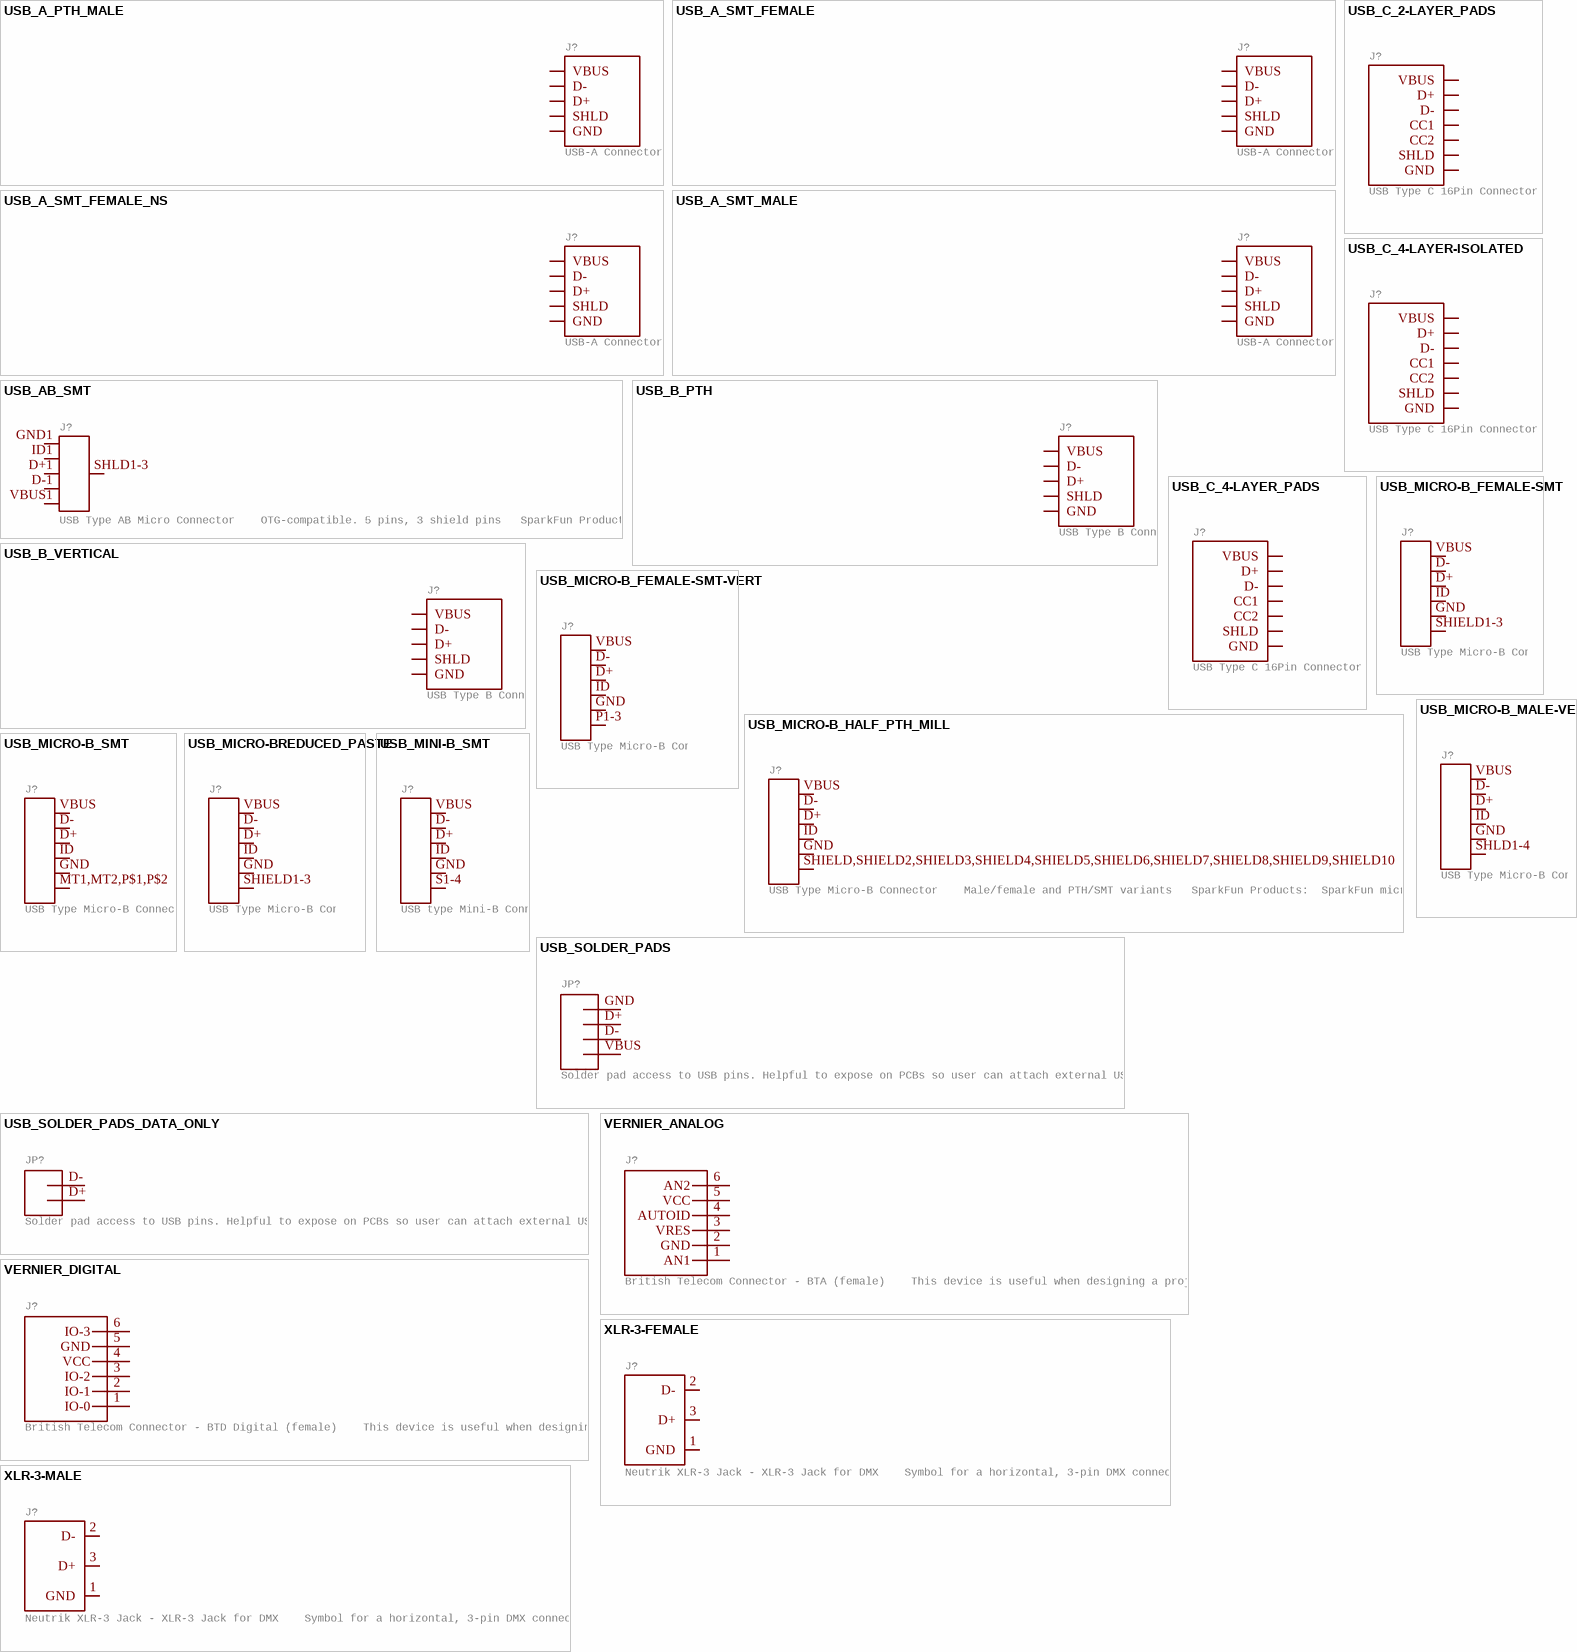
[diagram p21: symbols USB_A_PTH_MALE to XLR-3-MALE]